# Altium integrated library Lattice ORCA Series 3.IntLib: 93 symbols (part 10 of 14)
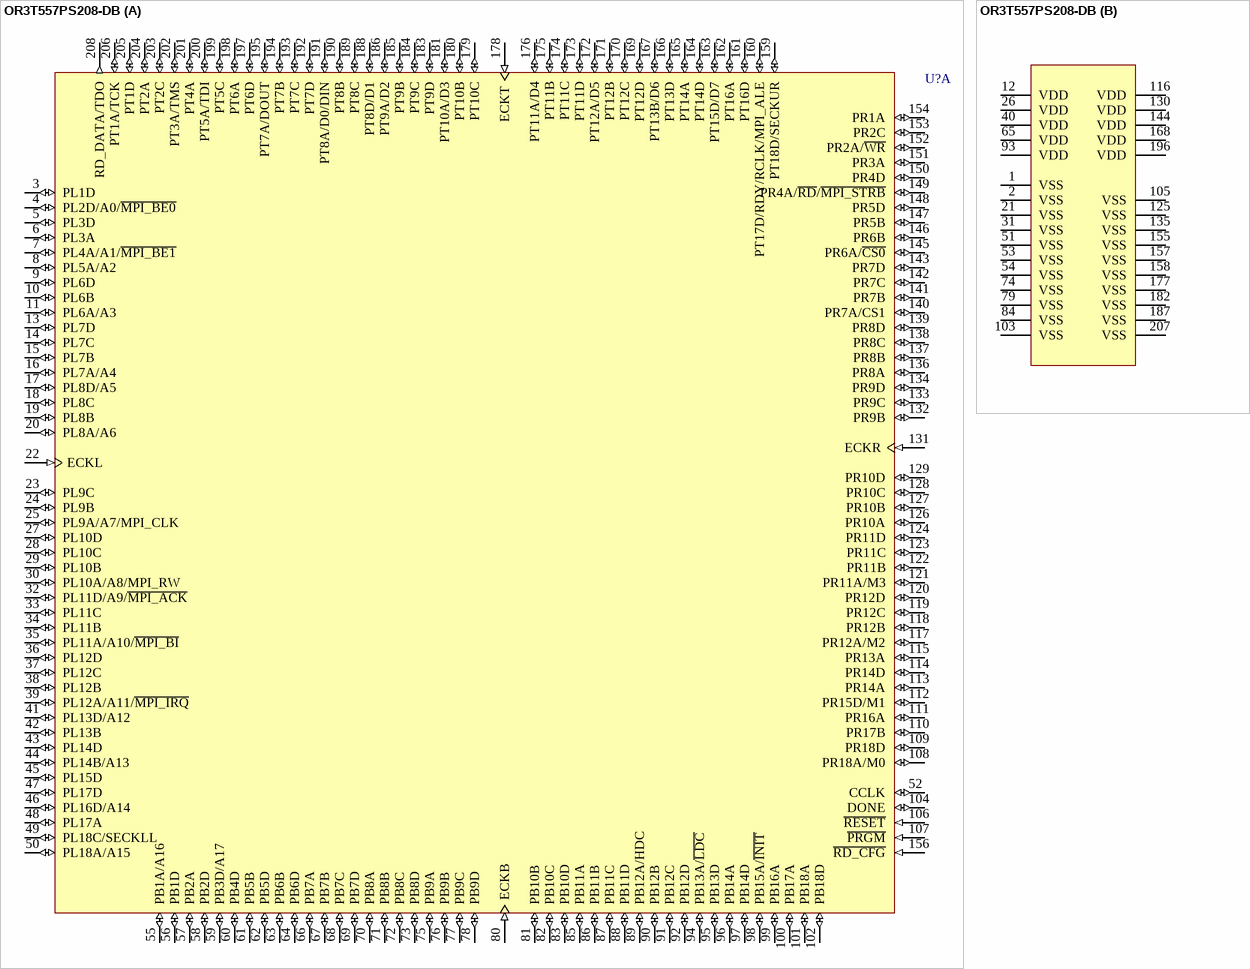
[diagram p145: symbol OR3T557PS208-DB]

## OR3T557PS208-DB
designator U?
ORCA Series 3T FPGA: 3.3 V, Commercial Grade, 292 I/Os.; Published: 21-May-2003; LatestRevisionDate: 13-Apr-2006; LatestRevisionNote: IPC-7351 Footprint Added.; DatasheetVersion: Dec-2002; PackageVersion: pkg_32, Aug-2005; PackageReference: PQFP208; Publisher: Altium Limited; PackageDescription: 208-Pin Plastic Quad Flat Pack (PQFP208); Code_JEDEC: MO-143-FAI; ComponentLink1Description: Manufacturer Link; ComponentLink1URL: http://www.latticesemi.com/products/fpga/orca/orca3/index.cfm; ComponentLink2Description: Datasheet; ComponentLink2URL: http://www.latticesemi.com/account/_download.cfm?AMID=3974; ComponentLink3Description: Lattice Login; ComponentLink3URL: http://www.latticesemi.com/account/login.cfm
footprint PQFP208_N (Shrink QFP, 208-Leads, Body 28x28mm, Pitch 0.5mm, IPC Medium Density)
footprint PQFP208_L (Shrink QFP, 208-Leads, Body 28x28mm, Pitch 0.5mm, IPC High Density)
footprint PQFP208_M (Shrink QFP, 208-Leads, Body 28x28mm, Pitch 0.5mm, IPC Low Density)
3D model OR3T55-PQFP208 (208-Pin Plastic Quad Flat Pack (PQFP208))
part A pins: 3 PL1D (io), 4 PL2D/A0/~{MPI_BE0} (io), 5 PL3D (io), 6 PL3A (io), 7 PL4A/A1/~{MPI_BE1} (io), 8 PL5A/A2 (io), 9 PL6D (io), 10 PL6B (io), 11 PL6A/A3 (io), 13 PL7D (io), 14 PL7C (io), 15 PL7B (io), 16 PL7A/A4 (io), 17 PL8D/A5 (io), 18 PL8C (io), 19 PL8B (io), 20 PL8A/A6 (io), 22 ECKL (in), 23 PL9C (io), 24 PL9B (io), 25 PL9A/A7/MPI_CLK (io), 27 PL10D (io), 28 PL10C (io), 29 PL10B (io), 30 PL10A/A8/MPI_RW (io), 32 PL11D/A9/~{MPI_ACK} (io), 33 PL11C (io), 34 PL11B (io), 35 PL11A/A10/~{MPI_BI} (io), 36 PL12D (io), 37 PL12C (io), 38 PL12B (io), 39 PL12A/A11/~{MPI_IRQ} (io), 41 PL13D/A12 (io), 42 PL13B (io), 43 PL14D (io), 44 PL14B/A13 (io), 45 PL15D (io), 46 PL16D/A14 (io), 47 PL17D (io), 48 PL17A (io), 49 PL18C/SECKLL (io), 50 PL18A/A15 (io), 52 CCLK (io), 55 PB1A/A16 (io), 56 PB1D (io), 57 PB2A (io), 58 PB2D (io), 59 PB3D/A17 (io), 60 PB4D (io), 61 PB5B (io), 62 PB5D (io), 63 PB6B (io), 64 PB6D (io), 66 PB7A (io), 67 PB7B (io), 68 PB7C (io), 69 PB7D (io), 70 PB8A (io), 71 PB8B (io), 72 PB8C (io), 73 PB8D (io), 75 PB9A (io), 76 PB9B (io), 77 PB9C (io), 78 PB9D (io), 80 ECKB (in), 81 PB10B (io), 82 PB10C (io), 83 PB10D (io), 85 PB11A (io), 86 PB11B (io), 87 PB11C (io), 88 PB11D (io), 89 PB12A/HDC (io), 90 PB12B (io), 91 PB12C (io), 92 PB12D (io), 94 PB13A/~{LDC} (io), 95 PB13D (io), 96 PB14A (io), 97 PB14D (io), 98 PB15A/~{INIT} (io), 99 PB16A (io), 100 PB17A (io), 101 PB18A (io), 102 PB18D (io), 104 DONE (io), 106 ~{RESET} (in), 107 ~{PRGM} (in), 108 PR18A/M0 (io), 109 PR18D (io), 110 PR17B (io), 111 PR16A (io), 112 PR15D/M1 (io), 113 PR14A (io), 114 PR14D (io), 115 PR13A (io), 117 PR12A/M2 (io), 118 PR12B (io), 119 PR12C (io), 120 PR12D (io), 121 PR11A/M3 (io), 122 PR11B (io), 123 PR11C (io), 124 PR11D (io), 126 PR10A (io), 127 PR10B (io), 128 PR10C (io), 129 PR10D (io), 131 ECKR (in), 132 PR9B (io), 133 PR9C (io), 134 PR9D (io), 136 PR8A (io), 137 PR8B (io), 138 PR8C (io), 139 PR8D (io), 140 PR7A/CS1 (io), 141 PR7B (io), 142 PR7C (io), 143 PR7D (io), 145 PR6A/~{CS0} (io), 146 PR6B (io), 147 PR5B (io), 148 PR5D (io), 149 PR4A/~{RD}/~{MPI_STRB} (io), 150 PR4D (io), 151 PR3A (io), 152 PR2A/~{WR} (io), 153 PR2C (io), 154 PR1A (io), 156 ~{RD_CFG} (in), 159 PT18D/SECKUR (io), 160 PT17D/RDY/RCLK/MPI_ALE (io), 161 PT16D (io), 162 PT16A (io), 163 PT15D/D7 (io), 164 PT14D (io), 165 PT14A (io), 166 PT13D (io), 167 PT13B/D6 (io), 169 PT12D (io), 170 PT12C (io), 171 PT12B (io), 172 PT12A/D5 (io), 173 PT11D (io), 174 PT11C (io), 175 PT11B (io), 176 PT11A/D4 (io), 178 ECKT (in), 179 PT10C (io), 180 PT10B (io), 181 PT10A/D3 (io), 183 PT9D (io), 184 PT9C (io), 185 PT9B (io), 186 PT9A/D2 (io), 188 PT8D/D1 (io), 189 PT8C (io), 190 PT8B (io), 191 PT8A/D0/DIN (io), 192 PT7D (io), 193 PT7C (io), 194 PT7B (io), 195 PT7A/DOUT (io), 197 PT6D (io), 198 PT6A (io), 199 PT5C (io), 200 PT5A/TDI (io), 201 PT4A (io), 202 PT3A/TMS (io), 203 PT2C (io), 204 PT2A (io), 205 PT1D (io), 206 PT1A/TCK (io), 208 RD_DATA/TDO (out)
part B pins: 1 VSS (power), 2 VSS (power), 12 VDD (power), 21 VSS (power), 26 VDD (power), 31 VSS (power), 40 VDD (power), 51 VSS (power), 53 VSS (power), 54 VSS (power), 65 VDD (power), 74 VSS (power), 79 VSS (power), 84 VSS (power), 93 VDD (power), 103 VSS (power), 105 VSS (power), 116 VDD (power), 125 VSS (power), 130 VDD (power), 135 VSS (power), 144 VDD (power), 155 VSS (power), 157 VSS (power), 158 VSS (power), 168 VDD (power), 177 VSS (power), 182 VSS (power), 187 VSS (power), 196 VDD (power), 207 VSS (power)

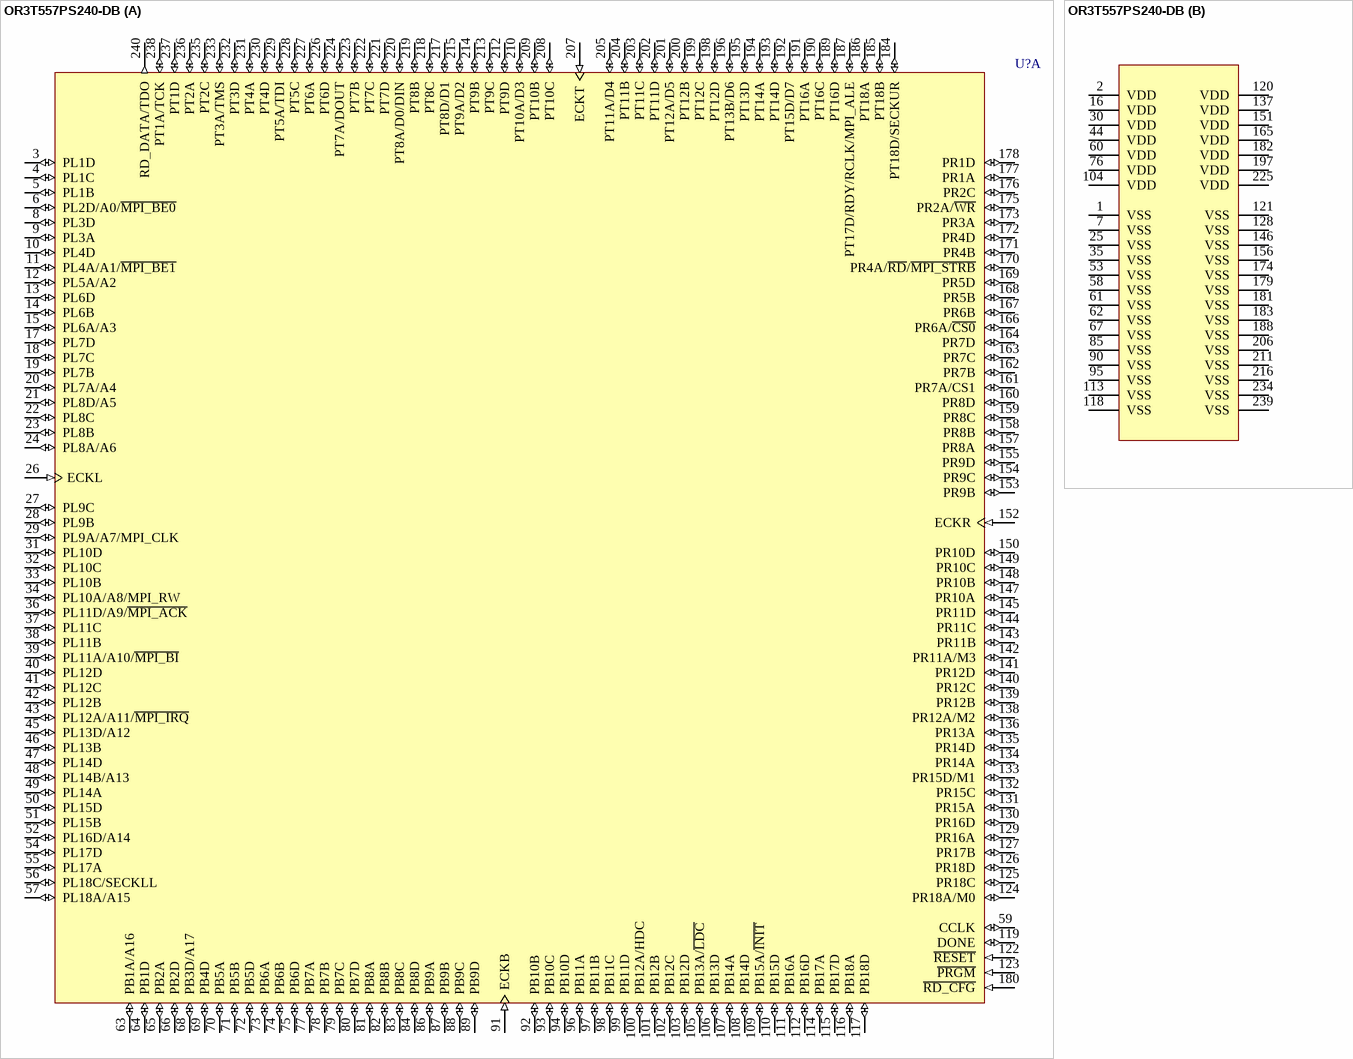
[diagram p95: symbol OR3T557PS240-DB]

## OR3T557PS240-DB
designator U?
ORCA Series 3T FPGA: 3.3 V, Commercial Grade, 292 I/Os.; Published: 21-May-2003; LatestRevisionDate: 13-Apr-2006; LatestRevisionNote: IPC-7351 Footprint Added.; DatasheetVersion: Dec-2002; PackageVersion: pkg_32, Aug-2005; PackageReference: PQFP240; Publisher: Altium Limited; PackageDescription: 240-Pin Shrink Quad Flat Pack 0.5 mm Pitch; ComponentLink1Description: Manufacturer Link; ComponentLink1URL: http://www.latticesemi.com/products/fpga/orca/orca3/index.cfm; ComponentLink2Description: Datasheet; ComponentLink2URL: http://www.latticesemi.com/account/_download.cfm?AMID=3974; ComponentLink3Description: Lattice Login; ComponentLink3URL: http://www.latticesemi.com/account/login.cfm
footprint PQFP240_N (Shrink QFP, 240-Leads, Body 32x32mm, Pitch 0.5mm, IPC Medium Density)
footprint PQFP240_L (Shrink QFP, 240-Leads, Body 32x32mm, Pitch 0.5mm, IPC High Density)
footprint PQFP240_M (Shrink QFP, 240-Leads, Body 32x32mm, Pitch 0.5mm, IPC Low Density)
3D model OR3T55-PQFP240 (240-Pin Shrink Quad Flat Pack 0.5 mm Pitch)
part A pins: 3 PL1D (io), 4 PL1C (io), 5 PL1B (io), 6 PL2D/A0/~{MPI_BE0} (io), 8 PL3D (io), 9 PL3A (io), 10 PL4D (io), 11 PL4A/A1/~{MPI_BE1} (io), 12 PL5A/A2 (io), 13 PL6D (io), 14 PL6B (io), 15 PL6A/A3 (io), 17 PL7D (io), 18 PL7C (io), 19 PL7B (io), 20 PL7A/A4 (io), 21 PL8D/A5 (io), 22 PL8C (io), 23 PL8B (io), 24 PL8A/A6 (io), 26 ECKL (in), 27 PL9C (io), 28 PL9B (io), 29 PL9A/A7/MPI_CLK (io), 31 PL10D (io), 32 PL10C (io), 33 PL10B (io), 34 PL10A/A8/MPI_RW (io), 36 PL11D/A9/~{MPI_ACK} (io), 37 PL11C (io), 38 PL11B (io), 39 PL11A/A10/~{MPI_BI} (io), 40 PL12D (io), 41 PL12C (io), 42 PL12B (io), 43 PL12A/A11/~{MPI_IRQ} (io), 45 PL13D/A12 (io), 46 PL13B (io), 47 PL14D (io), 48 PL14B/A13 (io), 49 PL14A (io), 50 PL15D (io), 51 PL15B (io), 52 PL16D/A14 (io), 54 PL17D (io), 55 PL17A (io), 56 PL18C/SECKLL (io), 57 PL18A/A15 (io), 59 CCLK (io), 63 PB1A/A16 (io), 64 PB1D (io), 65 PB2A (io), 66 PB2D (io), 68 PB3D/A17 (io), 69 PB4D (io), 70 PB5A (io), 71 PB5B (io), 72 PB5D (io), 73 PB6A (io), 74 PB6B (io), 75 PB6D (io), 77 PB7A (io), 78 PB7B (io), 79 PB7C (io), 80 PB7D (io), 81 PB8A (io), 82 PB8B (io), 83 PB8C (io), 84 PB8D (io), 86 PB9A (io), 87 PB9B (io), 88 PB9C (io), 89 PB9D (io), 91 ECKB (in), 92 PB10B (io), 93 PB10C (io), 94 PB10D (io), 96 PB11A (io), 97 PB11B (io), 98 PB11C (io), 99 PB11D (io), 100 PB12A/HDC (io), 101 PB12B (io), 102 PB12C (io), 103 PB12D (io), 105 PB13A/~{LDC} (io), 106 PB13D (io), 107 PB14A (io), 108 PB14D (io), 109 PB15A/~{INIT} (io), 110 PB15D (io), 111 PB16A (io), 112 PB16D (io), 114 PB17A (io), 115 PB17D (io), 116 PB18A (io), 117 PB18D (io), 119 DONE (io), 122 ~{RESET} (in), 123 ~{PRGM} (in), 124 PR18A/M0 (io), 125 PR18C (io), 126 PR18D (io), 127 PR17B (io), 129 PR16A (io), 130 PR16D (io), 131 PR15A (io), 132 PR15C (io), 133 PR15D/M1 (io), 134 PR14A (io), 135 PR14D (io), 136 PR13A (io), 138 PR12A/M2 (io), 139 PR12B (io), 140 PR12C (io), 141 PR12D (io), 142 PR11A/M3 (io), 143 PR11B (io), 144 PR11C (io), 145 PR11D (io), 147 PR10A (io), 148 PR10B (io), 149 PR10C (io), 150 PR10D (io), 152 ECKR (in), 153 PR9B (io), 154 PR9C (io), 155 PR9D (io), 157 PR8A (io), 158 PR8B (io), 159 PR8C (io), 160 PR8D (io), 161 PR7A/CS1 (io), 162 PR7B (io), 163 PR7C (io), 164 PR7D (io), 166 PR6A/~{CS0} (io), 167 PR6B (io), 168 PR5B (io), 169 PR5D (io), 170 PR4A/~{RD}/~{MPI_STRB} (io), 171 PR4B (io), 172 PR4D (io), 173 PR3A (io), 175 PR2A/~{WR} (io), 176 PR2C (io), 177 PR1A (io), 178 PR1D (io), 180 ~{RD_CFG} (in), 184 PT18D/SECKUR (io), 185 PT18B (io), 186 PT18A (io), 187 PT17D/RDY/RCLK/MPI_ALE (io), 189 PT16D (io), 190 PT16C (io), 191 PT16A (io), 192 PT15D/D7 (io), 193 PT14D (io), 194 PT14A (io), 195 PT13D (io), 196 PT13B/D6 (io), 198 PT12D (io), 199 PT12C (io), 200 PT12B (io), 201 PT12A/D5 (io), 202 PT11D (io), 203 PT11C (io), 204 PT11B (io), 205 PT11A/D4 (io), 207 ECKT (in), 208 PT10C (io), 209 PT10B (io), 210 PT10A/D3 (io), 212 PT9D (io), 213 PT9C (io), 214 PT9B (io), 215 PT9A/D2 (io), 217 PT8D/D1 (io), 218 PT8C (io), 219 PT8B (io), 220 PT8A/D0/DIN (io), 221 PT7D (io), 222 PT7C (io), 223 PT7B (io), 224 PT7A/DOUT (io), 226 PT6D (io), 227 PT6A (io), 228 PT5C (io), 229 PT5A/TDI (io), 230 PT4D (io), 231 PT4A (io), 232 PT3D (io), 233 PT3A/TMS (io), 235 PT2C (io), 236 PT2A (io), 237 PT1D (io), 238 PT1A/TCK (io), 240 RD_DATA/TDO (out)
part B pins: 1 VSS (power), 2 VDD (power), 7 VSS (power), 16 VDD (power), 25 VSS (power), 30 VDD (power), 35 VSS (power), 44 VDD (power), 53 VSS (power), 58 VSS (power), 60 VDD (power), 61 VSS (power), 62 VSS (power), 67 VSS (power), 76 VDD (power), 85 VSS (power), 90 VSS (power), 95 VSS (power), 104 VDD (power), 113 VSS (power), 118 VSS (power), 120 VDD (power), 121 VSS (power), 128 VSS (power), 137 VDD (power), 146 VSS (power), 151 VDD (power), 156 VSS (power), 165 VDD (power), 174 VSS (power), 179 VSS (power), 181 VSS (power), 182 VDD (power), 183 VSS (power), 188 VSS (power), 197 VDD (power), 206 VSS (power), 211 VSS (power), 216 VSS (power), 225 VDD (power), 234 VSS (power), 239 VSS (power)

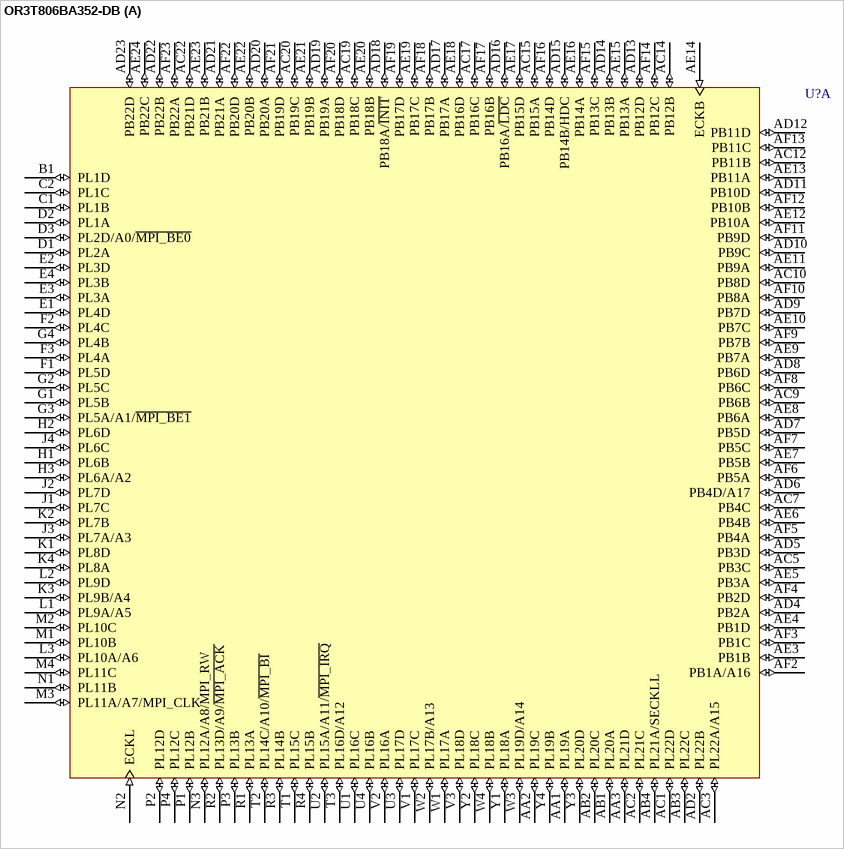
[diagram p96: symbol OR3T806BA352-DB]

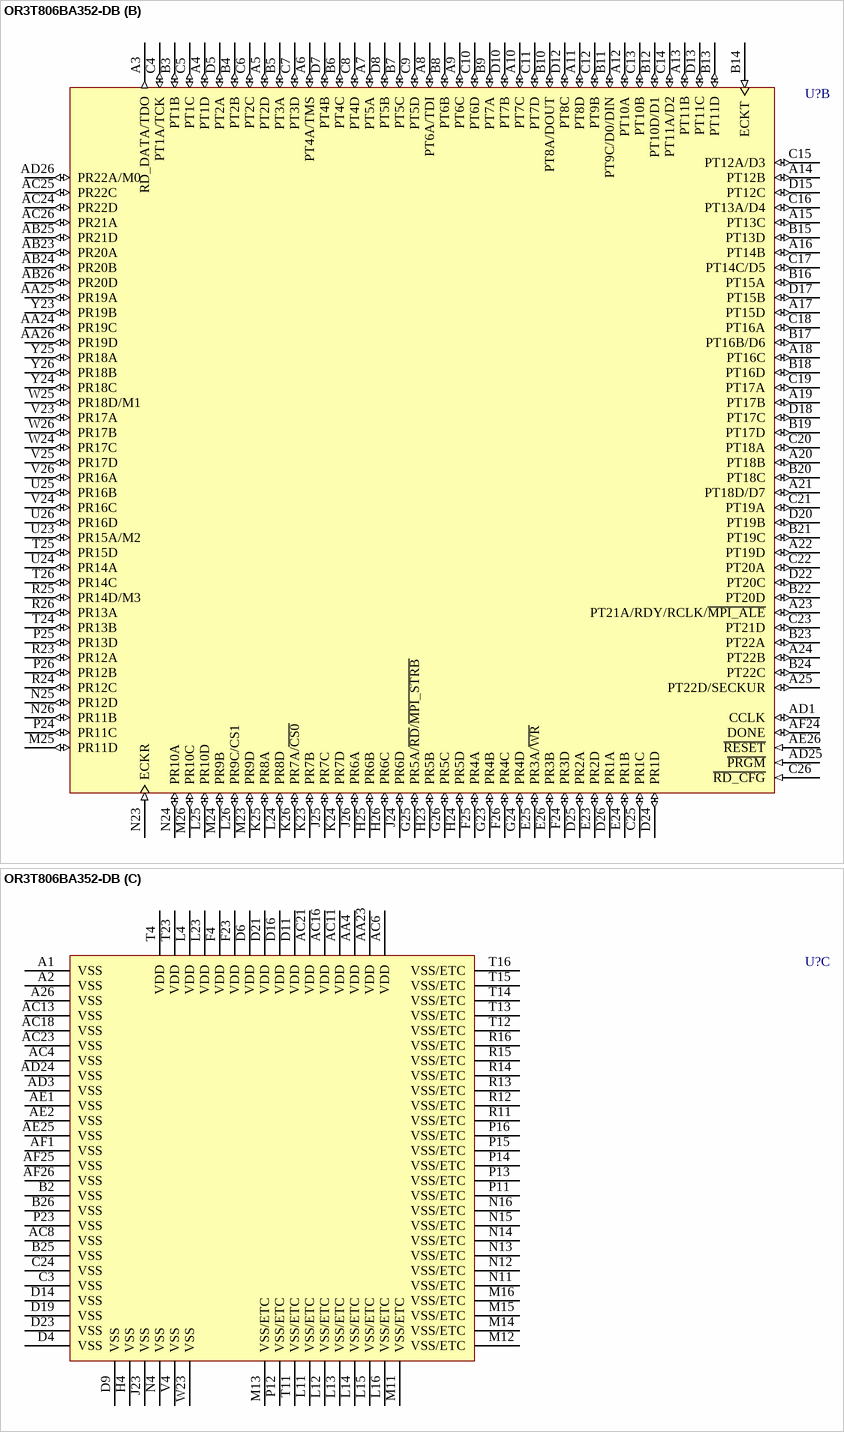
[diagram p97: symbol OR3T806BA352-DB]

## OR3T806BA352-DB
designator U?
ORCA Series 3T FPGA: 3.3 V, Commercial Grade, 356 I/Os.; PinConnectionRecommendation: Ground array of 'VSS-ETC' pins for enhanced thermal capability or leave unconnected.; Published: 21-May-2003; LatestRevisionDate: 13-Apr-2006; LatestRevisionNote: IPC-7351 Footprint Added.; DatasheetVersion: Dec-2002; PackageVersion: pkg_32, Aug-2005; PackageReference: BGA388; Publisher: Altium Limited; PackageDescription: 388-Ball Ball Grid Array (BGA388); ComponentLink1Description: Manufacturer Link; ComponentLink1URL: http://www.latticesemi.com/products/fpga/orca/orca3/index.cfm; ComponentLink2Description: Datasheet; ComponentLink2URL: http://www.latticesemi.com/account/_download.cfm?AMID=3974; ComponentLink3Description: Lattice Login; ComponentLink3URL: http://www.latticesemi.com/account/login.cfm
footprint BGA388 (BGA, 388-Leads, Body 35x35mm, Pitch 1.27mm)
3D model OR3T80-BGA388 (388-Ball Ball Grid Array (BGA388))
part A pins: AA1 PL19A (io), AA2 PL19C (io), AA3 PL21D (io), AB1 PL20A (io), AB2 PL20C (io), AB3 PL22C (io), AB4 PL21A/SECKLL (io), AC1 PL22D (io), AC2 PL21C (io), AC3 PL22A/A15 (io), AC5 PB3C (io), AC7 PB4C (io), AC9 PB6B (io), AC10 PB8D (io), AC12 PB11B (io), AC14 PB12B (io), AC15 PB15A (io), AC17 PB16C (io), AC19 PB18C (io), AC20 PB19C (io), AC22 PB21D (io), AD2 PL22B (io), AD4 PB2A (io), AD5 PB3D (io), AD6 PB4D/A17 (io), AD7 PB5D (io), AD8 PB6D (io), AD9 PB7D (io), AD10 PB9C (io), AD11 PB10D (io), AD12 PB11D (io), AD13 PB12D (io), AD14 PB13B (io), AD15 PB14B/HDC (io), AD16 PB16A/~{LDC} (io), AD17 PB17A (io), AD18 PB18A/~{INIT} (io), AD19 PB19A (io), AD20 PB20A (io), AD21 PB21A (io), AD22 PB22B (io), AD23 PB22D (io), AE3 PB1B (io), AE4 PB1D (io), AE5 PB3A (io), AE6 PB4B (io), AE7 PB5B (io), AE8 PB6A (io), AE9 PB7A (io), AE10 PB7C (io), AE11 PB9A (io), AE12 PB10A (io), AE13 PB11A (io), AE14 ECKB (in), AE15 PB13A (io), AE16 PB14A (io), AE17 PB15D (io), AE18 PB16D (io), AE19 PB17C (io), AE20 PB18B (io), AE21 PB19B (io), AE22 PB20B (io), AE23 PB21B (io), AE24 PB22C (io), AF2 PB1A/A16 (io), AF3 PB1C (io), AF4 PB2D (io), AF5 PB4A (io), AF6 PB5A (io), AF7 PB5C (io), AF8 PB6C (io), AF9 PB7B (io), AF10 PB8A (io), AF11 PB9D (io), AF12 PB10B (io), AF13 PB11C (io), AF14 PB12C (io), AF15 PB13C (io), AF16 PB14D (io), AF17 PB16B (io), AF18 PB17B (io), AF19 PB17D (io), AF20 PB18D (io), AF21 PB19D (io), AF22 PB20D (io), AF23 PB22A (io), B1 PL1D (io), C1 PL1B (io), C2 PL1C (io), D1 PL2A (io), D2 PL1A (io), D3 PL2D/A0/~{MPI_BE0} (io), E1 PL4D (io), E2 PL3D (io), E3 PL3A (io), E4 PL3B (io), F1 PL5D (io), F2 PL4C (io), F3 PL4A (io), G1 PL5B (io), G2 PL5C (io), G3 PL5A/A1/~{MPI_BE1} (io), G4 PL4B (io), H1 PL6B (io), H2 PL6D (io), H3 PL6A/A2 (io), J1 PL7C (io), J2 PL7D (io), J3 PL7A/A3 (io), J4 PL6C (io), K1 PL8D (io), K2 PL7B (io), K3 PL9B/A4 (io), K4 PL8A (io), L1 PL9A/A5 (io), L2 PL9D (io), L3 PL10A/A6 (io), M1 PL10B (io), M2 PL10C (io), M3 PL11A/A7/MPI_CLK (io), M4 PL11C (io), N1 PL11B (io), N2 ECKL (in), N3 PL12A/A8/MPI_RW (io), P1 PL12B (io), P2 PL12D (io), P3 PL13B (io), P4 PL12C (io), R1 PL13A (io), R2 PL13D/A9/~{MPI_ACK} (io), R3 PL14B (io), R4 PL15B (io), T1 PL15C (io), T2 PL14C/A10/~{MPI_BI} (io), T3 PL16D/A12 (io), U1 PL16C (io), U2 PL15A/A11/~{MPI_IRQ} (io), U3 PL17D (io), U4 PL16B (io), V1 PL17C (io), V2 PL16A (io), V3 PL18D (io), W1 PL17A (io), W2 PL17B/A13 (io), W3 PL19D/A14 (io), W4 PL18B (io), Y1 PL18A (io), Y2 PL18C (io), Y3 PL20D (io), Y4 PL19B (io)
part B pins: A3 RD_DATA/TDO (out), A4 PT1D (io), A5 PT2D (io), A6 PT4A/TMS (io), A7 PT5A (io), A8 PT6A/TDI (io), A9 PT6C (io), A10 PT7C (io), A11 PT8D (io), A12 PT10A (io), A13 PT11B (io), A14 PT12B (io), A15 PT13C (io), A16 PT14B (io), A17 PT15D (io), A18 PT16C (io), A19 PT17B (io), A20 PT18B (io), A21 PT18D/D7 (io), A22 PT19D (io), A23 PT21A/RDY/RCLK/~{MPI_ALE} (io), A24 PT22B (io), A25 PT22D/SECKUR (io), AA24 PR19C (io), AA25 PR19A (io), AA26 PR19D (io), AB23 PR20A (io), AB24 PR20B (io), AB25 PR21D (io), AB26 PR20D (io), AC24 PR22D (io), AC25 PR22C (io), AC26 PR21A (io), AD1 CCLK (io), AD25 ~{PRGM} (in), AD26 PR22A/M0 (io), AE26 ~{RESET} (in), AF24 DONE (io), B3 PT1B (io), B4 PT2B (io), B5 PT3A (io), B6 PT4C (io), B7 PT5C (io), B8 PT6B (io), B9 PT7A (io), B10 PT8A/DOUT (io), B11 PT9C/D0/DIN (io), B12 PT10D/D1 (io), B13 PT11D (io), B14 ECKT (in), B15 PT13D (io), B16 PT15A (io), B17 PT16B/D6 (io), B18 PT16D (io), B19 PT17D (io), B20 PT18C (io), B21 PT19C (io), B22 PT20D (io), B23 PT22A (io), B24 PT22C (io), C4 PT1A/TCK (io), C5 PT1C (io), C6 PT2C (io), C7 PT3D (io), C8 PT4D (io), C9 PT5D (io), C10 PT6D (io), C11 PT7D (io), C12 PT9B (io), C13 PT10B (io), C14 PT11A/D2 (io), C15 PT12A/D3 (io), C16 PT13A/D4 (io), C17 PT14C/D5 (io), C18 PT16A (io), C19 PT17A (io), C20 PT18A (io), C21 PT19A (io), C22 PT20A (io), C23 PT21D (io), C25 PR1C (io), C26 ~{RD_CFG} (in), D5 PT2A (io), D7 PT4B (io), D8 PT5B (io), D10 PT7B (io), D12 PT8C (io), D13 PT11C (io), D15 PT12C (io), D17 PT15B (io), D18 PT17C (io), D20 PT19B (io), D22 PT20C (io), D24 PR1D (io), D25 PR2A (io), D26 PR1A (io), E23 PR2D (io), E24 PR1B (io), E25 PR3A/~{WR} (io), E26 PR3B (io), F24 PR3D (io), F25 PR4A (io), F26 PR4C (io), G23 PR4B (io), G24 PR4D (io), G25 PR5A/~{RD}/~{MPI_STRB} (io), G26 PR5C (io), H23 PR5B (io), H24 PR5D (io), H25 PR6B (io), H26 PR6C (io), J24 PR6D (io), J25 PR7C (io), J26 PR6A (io), K23 PR7B (io), K24 PR7D (io), K25 PR8A (io), K26 PR7A/~{CS0} (io), L24 PR8D (io), L25 PR10D (io), L26 PR9C/CS1 (io), M23 PR9D (io), M24 PR9B (io), M25 PR11D (io), M26 PR10C (io), N23 ECKR (in), N24 PR10A (io), N25 PR12D (io), N26 PR11B (io), P24 PR11C (io), P25 PR13D (io), P26 PR12B (io), R23 PR12A (io), R24 PR12C (io), R25 PR14D/M3 (io), R26 PR13A (io), T24 PR13B (io), T25 PR15D (io), T26 PR14C (io), U23 PR15A/M2 (io), U24 PR14A (io), U25 PR16B (io), U26 PR16D (io), V23 PR17A (io), V24 PR16C (io), V25 PR17D (io), V26 PR16A (io), W24 PR17C (io), W25 PR18D/M1 (io), W26 PR17B (io), Y23 PR19B (io), Y24 PR18C (io), Y25 PR18A (io), Y26 PR18B (io)
part C pins: A1 VSS (power), A2 VSS (power), A26 VSS (power), AA4 VDD (power), AA23 VDD (power), AC4 VSS (power), AC6 VDD (power), AC8 VSS (power), AC11 VDD (power), AC13 VSS (power), AC16 VDD (power), AC18 VSS (power), AC21 VDD (power), AC23 VSS (power), AD3 VSS (power), AD24 VSS (power), AE1 VSS (power), AE2 VSS (power), AE25 VSS (power), AF1 VSS (power), AF25 VSS (power), AF26 VSS (power), B2 VSS (power), B25 VSS (power), B26 VSS (power), C3 VSS (power), C24 VSS (power), D4 VSS (power), D6 VDD (power), D9 VSS (power), D11 VDD (power), D14 VSS (power), D16 VDD (power), D19 VSS (power), D21 VDD (power), D23 VSS (power), F4 VDD (power), F23 VDD (power), H4 VSS (power), J23 VSS (power), L4 VDD (power), L11 VSS/ETC (power), L12 VSS/ETC (power), L13 VSS/ETC (power), L14 VSS/ETC (power), L15 VSS/ETC (power), L16 VSS/ETC (power), L23 VDD (power), M11 VSS/ETC (power), M12 VSS/ETC (power), M13 VSS/ETC (power), M14 VSS/ETC (power), M15 VSS/ETC (power), M16 VSS/ETC (power), N4 VSS (power), N11 VSS/ETC (power), N12 VSS/ETC (power), N13 VSS/ETC (power), N14 VSS/ETC (power), N15 VSS/ETC (power), N16 VSS/ETC (power), P11 VSS/ETC (power), P12 VSS/ETC (power), P13 VSS/ETC (power), P14 VSS/ETC (power), P15 VSS/ETC (power), P16 VSS/ETC (power), P23 VSS (power), R11 VSS/ETC (power), R12 VSS/ETC (power), R13 VSS/ETC (power), R14 VSS/ETC (power), R15 VSS/ETC (power), R16 VSS/ETC (power), T4 VDD (power), T11 VSS/ETC (power), T12 VSS/ETC (power), T13 VSS/ETC (power), T14 VSS/ETC (power), T15 VSS/ETC (power), T16 VSS/ETC (power), T23 VDD (power), V4 VSS (power), W23 VSS (power)

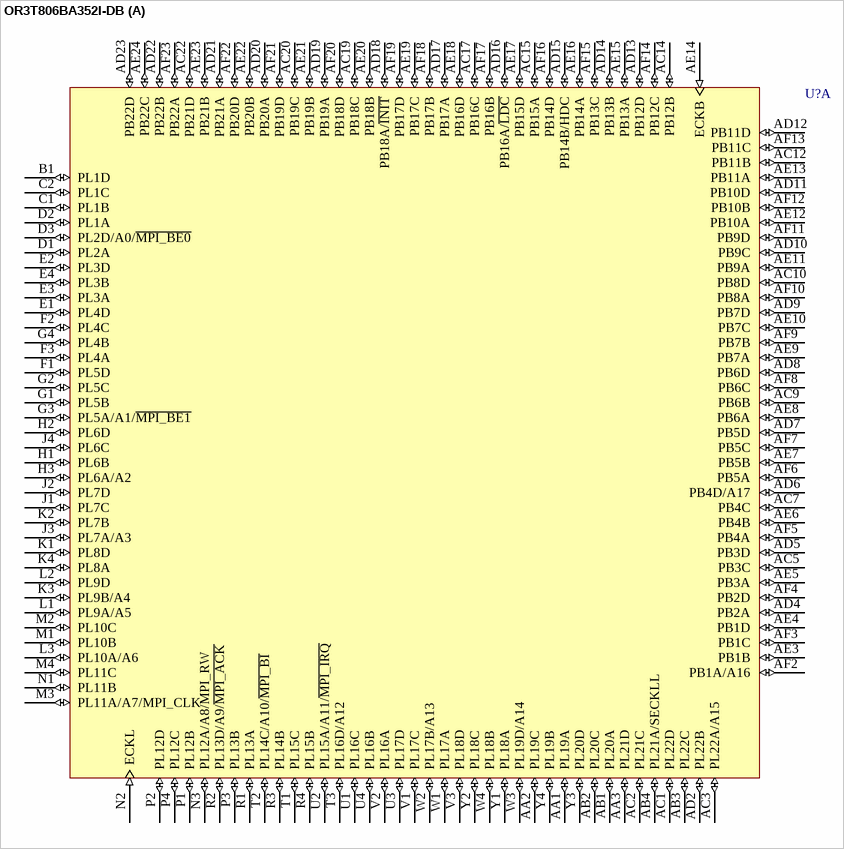
[diagram p98: symbol OR3T806BA352I-DB]

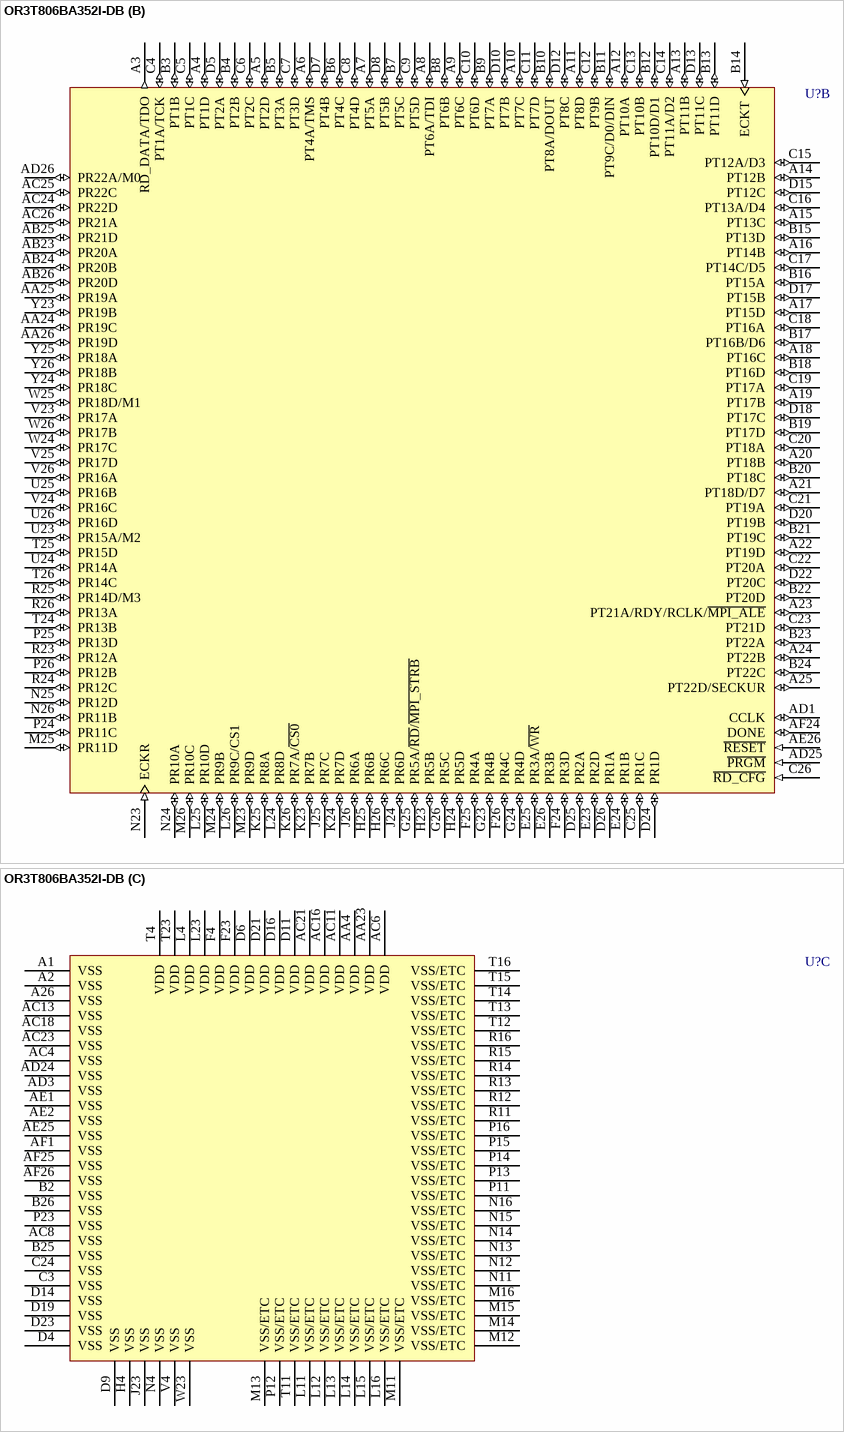
[diagram p99: symbol OR3T806BA352I-DB]

## OR3T806BA352I-DB
designator U?
ORCA Series 3T FPGA: 3.3 V, Industrial Grade, 356 I/Os.; PinConnectionRecommendation: Ground array of 'VSS-ETC' pins for enhanced thermal capability or leave unconnected.; Published: 21-May-2003; LatestRevisionDate: 13-Apr-2006; LatestRevisionNote: IPC-7351 Footprint Added.; DatasheetVersion: Dec-2002; PackageVersion: pkg_32, Aug-2005; PackageReference: BGA388; Publisher: Altium Limited; PackageDescription: 388-Ball Ball Grid Array (BGA388); ComponentLink1Description: Manufacturer Link; ComponentLink1URL: http://www.latticesemi.com/products/fpga/orca/orca3/index.cfm; ComponentLink2Description: Datasheet; ComponentLink2URL: http://www.latticesemi.com/account/_download.cfm?AMID=3974; ComponentLink3Description: Lattice Login; ComponentLink3URL: http://www.latticesemi.com/account/login.cfm
footprint BGA388 (BGA, 388-Leads, Body 35x35mm, Pitch 1.27mm)
3D model OR3T80-BGA388 (388-Ball Ball Grid Array (BGA388))
part A pins: AA1 PL19A (io), AA2 PL19C (io), AA3 PL21D (io), AB1 PL20A (io), AB2 PL20C (io), AB3 PL22C (io), AB4 PL21A/SECKLL (io), AC1 PL22D (io), AC2 PL21C (io), AC3 PL22A/A15 (io), AC5 PB3C (io), AC7 PB4C (io), AC9 PB6B (io), AC10 PB8D (io), AC12 PB11B (io), AC14 PB12B (io), AC15 PB15A (io), AC17 PB16C (io), AC19 PB18C (io), AC20 PB19C (io), AC22 PB21D (io), AD2 PL22B (io), AD4 PB2A (io), AD5 PB3D (io), AD6 PB4D/A17 (io), AD7 PB5D (io), AD8 PB6D (io), AD9 PB7D (io), AD10 PB9C (io), AD11 PB10D (io), AD12 PB11D (io), AD13 PB12D (io), AD14 PB13B (io), AD15 PB14B/HDC (io), AD16 PB16A/~{LDC} (io), AD17 PB17A (io), AD18 PB18A/~{INIT} (io), AD19 PB19A (io), AD20 PB20A (io), AD21 PB21A (io), AD22 PB22B (io), AD23 PB22D (io), AE3 PB1B (io), AE4 PB1D (io), AE5 PB3A (io), AE6 PB4B (io), AE7 PB5B (io), AE8 PB6A (io), AE9 PB7A (io), AE10 PB7C (io), AE11 PB9A (io), AE12 PB10A (io), AE13 PB11A (io), AE14 ECKB (in), AE15 PB13A (io), AE16 PB14A (io), AE17 PB15D (io), AE18 PB16D (io), AE19 PB17C (io), AE20 PB18B (io), AE21 PB19B (io), AE22 PB20B (io), AE23 PB21B (io), AE24 PB22C (io), AF2 PB1A/A16 (io), AF3 PB1C (io), AF4 PB2D (io), AF5 PB4A (io), AF6 PB5A (io), AF7 PB5C (io), AF8 PB6C (io), AF9 PB7B (io), AF10 PB8A (io), AF11 PB9D (io), AF12 PB10B (io), AF13 PB11C (io), AF14 PB12C (io), AF15 PB13C (io), AF16 PB14D (io), AF17 PB16B (io), AF18 PB17B (io), AF19 PB17D (io), AF20 PB18D (io), AF21 PB19D (io), AF22 PB20D (io), AF23 PB22A (io), B1 PL1D (io), C1 PL1B (io), C2 PL1C (io), D1 PL2A (io), D2 PL1A (io), D3 PL2D/A0/~{MPI_BE0} (io), E1 PL4D (io), E2 PL3D (io), E3 PL3A (io), E4 PL3B (io), F1 PL5D (io), F2 PL4C (io), F3 PL4A (io), G1 PL5B (io), G2 PL5C (io), G3 PL5A/A1/~{MPI_BE1} (io), G4 PL4B (io), H1 PL6B (io), H2 PL6D (io), H3 PL6A/A2 (io), J1 PL7C (io), J2 PL7D (io), J3 PL7A/A3 (io), J4 PL6C (io), K1 PL8D (io), K2 PL7B (io), K3 PL9B/A4 (io), K4 PL8A (io), L1 PL9A/A5 (io), L2 PL9D (io), L3 PL10A/A6 (io), M1 PL10B (io), M2 PL10C (io), M3 PL11A/A7/MPI_CLK (io), M4 PL11C (io), N1 PL11B (io), N2 ECKL (in), N3 PL12A/A8/MPI_RW (io), P1 PL12B (io), P2 PL12D (io), P3 PL13B (io), P4 PL12C (io), R1 PL13A (io), R2 PL13D/A9/~{MPI_ACK} (io), R3 PL14B (io), R4 PL15B (io), T1 PL15C (io), T2 PL14C/A10/~{MPI_BI} (io), T3 PL16D/A12 (io), U1 PL16C (io), U2 PL15A/A11/~{MPI_IRQ} (io), U3 PL17D (io), U4 PL16B (io), V1 PL17C (io), V2 PL16A (io), V3 PL18D (io), W1 PL17A (io), W2 PL17B/A13 (io), W3 PL19D/A14 (io), W4 PL18B (io), Y1 PL18A (io), Y2 PL18C (io), Y3 PL20D (io), Y4 PL19B (io)
part B pins: A3 RD_DATA/TDO (out), A4 PT1D (io), A5 PT2D (io), A6 PT4A/TMS (io), A7 PT5A (io), A8 PT6A/TDI (io), A9 PT6C (io), A10 PT7C (io), A11 PT8D (io), A12 PT10A (io), A13 PT11B (io), A14 PT12B (io), A15 PT13C (io), A16 PT14B (io), A17 PT15D (io), A18 PT16C (io), A19 PT17B (io), A20 PT18B (io), A21 PT18D/D7 (io), A22 PT19D (io), A23 PT21A/RDY/RCLK/~{MPI_ALE} (io), A24 PT22B (io), A25 PT22D/SECKUR (io), AA24 PR19C (io), AA25 PR19A (io), AA26 PR19D (io), AB23 PR20A (io), AB24 PR20B (io), AB25 PR21D (io), AB26 PR20D (io), AC24 PR22D (io), AC25 PR22C (io), AC26 PR21A (io), AD1 CCLK (io), AD25 ~{PRGM} (in), AD26 PR22A/M0 (io), AE26 ~{RESET} (in), AF24 DONE (io), B3 PT1B (io), B4 PT2B (io), B5 PT3A (io), B6 PT4C (io), B7 PT5C (io), B8 PT6B (io), B9 PT7A (io), B10 PT8A/DOUT (io), B11 PT9C/D0/DIN (io), B12 PT10D/D1 (io), B13 PT11D (io), B14 ECKT (in), B15 PT13D (io), B16 PT15A (io), B17 PT16B/D6 (io), B18 PT16D (io), B19 PT17D (io), B20 PT18C (io), B21 PT19C (io), B22 PT20D (io), B23 PT22A (io), B24 PT22C (io), C4 PT1A/TCK (io), C5 PT1C (io), C6 PT2C (io), C7 PT3D (io), C8 PT4D (io), C9 PT5D (io), C10 PT6D (io), C11 PT7D (io), C12 PT9B (io), C13 PT10B (io), C14 PT11A/D2 (io), C15 PT12A/D3 (io), C16 PT13A/D4 (io), C17 PT14C/D5 (io), C18 PT16A (io), C19 PT17A (io), C20 PT18A (io), C21 PT19A (io), C22 PT20A (io), C23 PT21D (io), C25 PR1C (io), C26 ~{RD_CFG} (in), D5 PT2A (io), D7 PT4B (io), D8 PT5B (io), D10 PT7B (io), D12 PT8C (io), D13 PT11C (io), D15 PT12C (io), D17 PT15B (io), D18 PT17C (io), D20 PT19B (io), D22 PT20C (io), D24 PR1D (io), D25 PR2A (io), D26 PR1A (io), E23 PR2D (io), E24 PR1B (io), E25 PR3A/~{WR} (io), E26 PR3B (io), F24 PR3D (io), F25 PR4A (io), F26 PR4C (io), G23 PR4B (io), G24 PR4D (io), G25 PR5A/~{RD}/~{MPI_STRB} (io), G26 PR5C (io), H23 PR5B (io), H24 PR5D (io), H25 PR6B (io), H26 PR6C (io), J24 PR6D (io), J25 PR7C (io), J26 PR6A (io), K23 PR7B (io), K24 PR7D (io), K25 PR8A (io), K26 PR7A/~{CS0} (io), L24 PR8D (io), L25 PR10D (io), L26 PR9C/CS1 (io), M23 PR9D (io), M24 PR9B (io), M25 PR11D (io), M26 PR10C (io), N23 ECKR (in), N24 PR10A (io), N25 PR12D (io), N26 PR11B (io), P24 PR11C (io), P25 PR13D (io), P26 PR12B (io), R23 PR12A (io), R24 PR12C (io), R25 PR14D/M3 (io), R26 PR13A (io), T24 PR13B (io), T25 PR15D (io), T26 PR14C (io), U23 PR15A/M2 (io), U24 PR14A (io), U25 PR16B (io), U26 PR16D (io), V23 PR17A (io), V24 PR16C (io), V25 PR17D (io), V26 PR16A (io), W24 PR17C (io), W25 PR18D/M1 (io), W26 PR17B (io), Y23 PR19B (io), Y24 PR18C (io), Y25 PR18A (io), Y26 PR18B (io)
part C pins: A1 VSS (power), A2 VSS (power), A26 VSS (power), AA4 VDD (power), AA23 VDD (power), AC4 VSS (power), AC6 VDD (power), AC8 VSS (power), AC11 VDD (power), AC13 VSS (power), AC16 VDD (power), AC18 VSS (power), AC21 VDD (power), AC23 VSS (power), AD3 VSS (power), AD24 VSS (power), AE1 VSS (power), AE2 VSS (power), AE25 VSS (power), AF1 VSS (power), AF25 VSS (power), AF26 VSS (power), B2 VSS (power), B25 VSS (power), B26 VSS (power), C3 VSS (power), C24 VSS (power), D4 VSS (power), D6 VDD (power), D9 VSS (power), D11 VDD (power), D14 VSS (power), D16 VDD (power), D19 VSS (power), D21 VDD (power), D23 VSS (power), F4 VDD (power), F23 VDD (power), H4 VSS (power), J23 VSS (power), L4 VDD (power), L11 VSS/ETC (power), L12 VSS/ETC (power), L13 VSS/ETC (power), L14 VSS/ETC (power), L15 VSS/ETC (power), L16 VSS/ETC (power), L23 VDD (power), M11 VSS/ETC (power), M12 VSS/ETC (power), M13 VSS/ETC (power), M14 VSS/ETC (power), M15 VSS/ETC (power), M16 VSS/ETC (power), N4 VSS (power), N11 VSS/ETC (power), N12 VSS/ETC (power), N13 VSS/ETC (power), N14 VSS/ETC (power), N15 VSS/ETC (power), N16 VSS/ETC (power), P11 VSS/ETC (power), P12 VSS/ETC (power), P13 VSS/ETC (power), P14 VSS/ETC (power), P15 VSS/ETC (power), P16 VSS/ETC (power), P23 VSS (power), R11 VSS/ETC (power), R12 VSS/ETC (power), R13 VSS/ETC (power), R14 VSS/ETC (power), R15 VSS/ETC (power), R16 VSS/ETC (power), T4 VDD (power), T11 VSS/ETC (power), T12 VSS/ETC (power), T13 VSS/ETC (power), T14 VSS/ETC (power), T15 VSS/ETC (power), T16 VSS/ETC (power), T23 VDD (power), V4 VSS (power), W23 VSS (power)

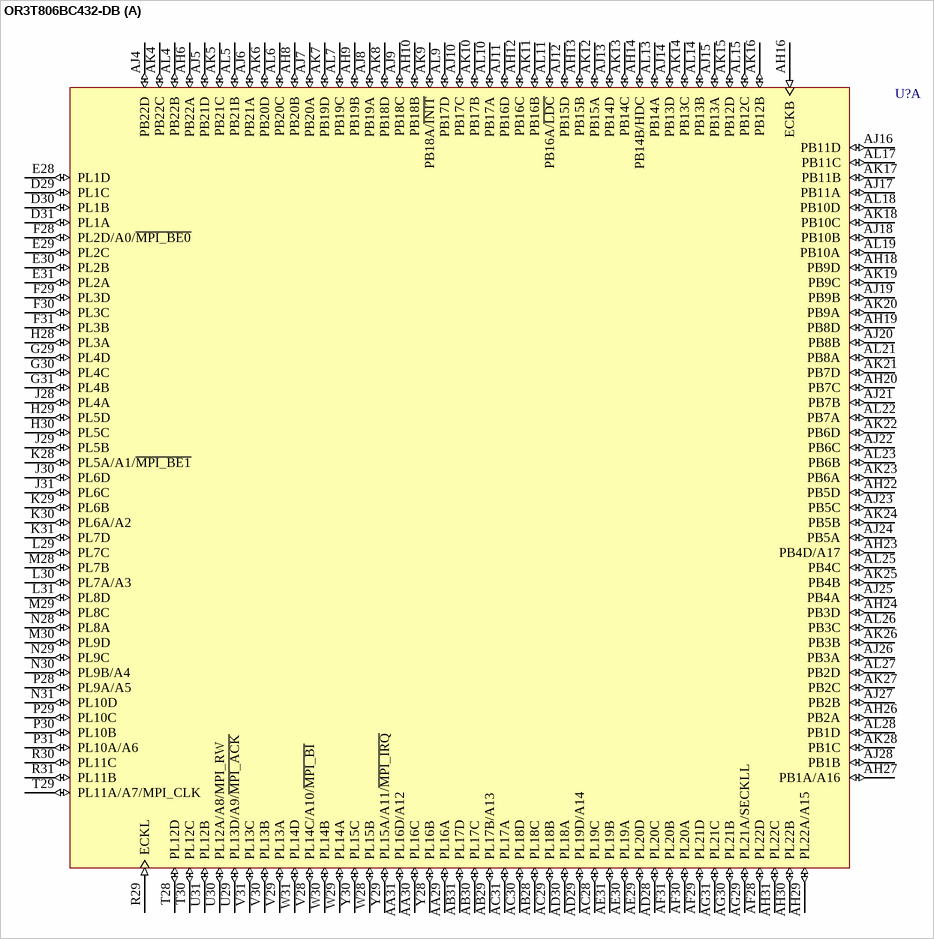
[diagram p100: symbol OR3T806BC432-DB]

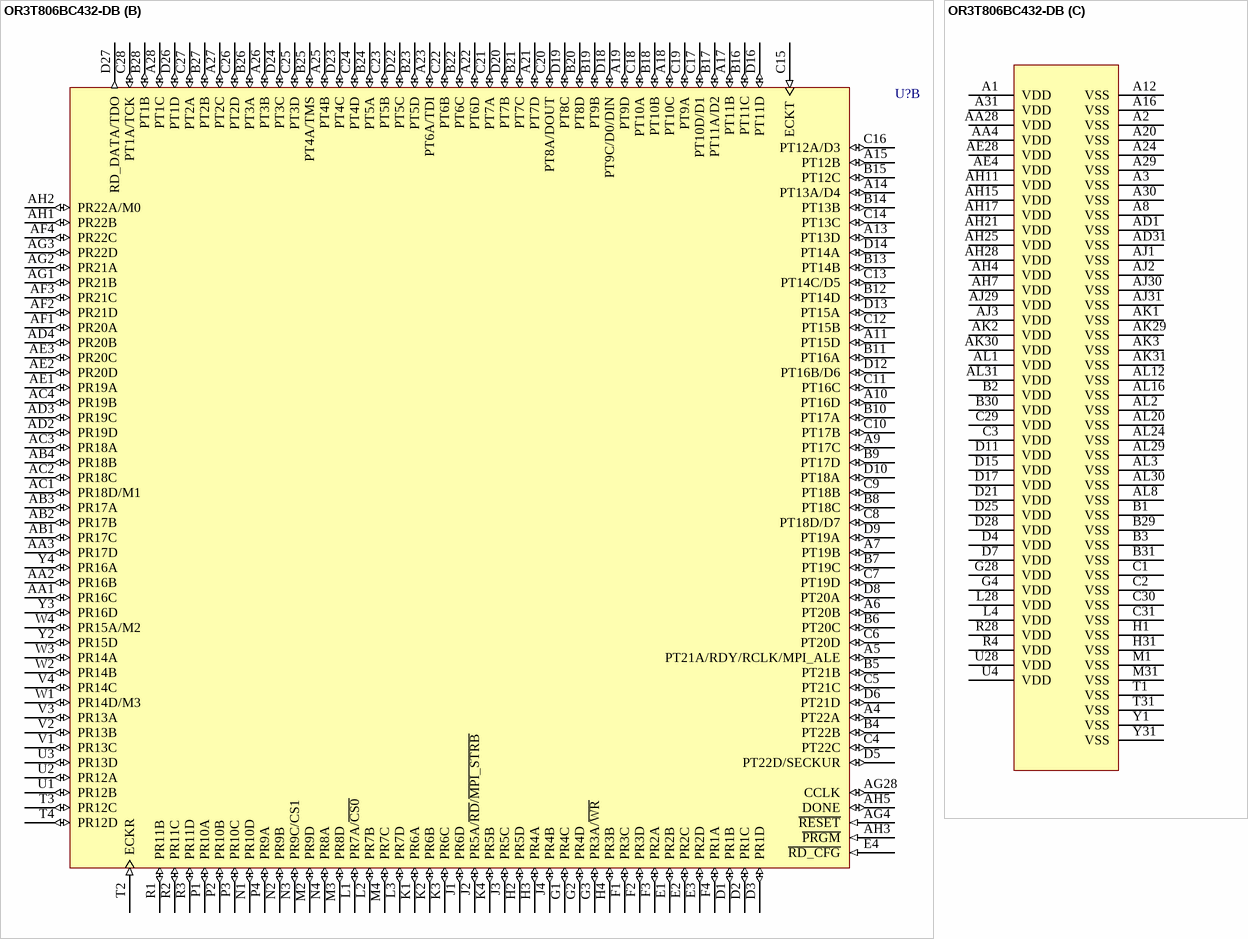
[diagram p101: symbol OR3T806BC432-DB]

## OR3T806BC432-DB
designator U?
ORCA Series 3T FPGA: 3.3 V, Commercial Grade, 356 I/Os.; Published: 21-May-2003; LatestRevisionDate: 13-Apr-2006; LatestRevisionNote: IPC-7351 Footprint Added.; DatasheetVersion: Dec-2002; PackageVersion: pkg_32, Aug-2005; PackageReference: SBGA432; Publisher: Altium Limited; PackageDescription: 432-Ball Super Ball Grid Array (SBGA432); ComponentLink1Description: Manufacturer Link; ComponentLink1URL: http://www.latticesemi.com/products/fpga/orca/orca3/index.cfm; ComponentLink2Description: Datasheet; ComponentLink2URL: http://www.latticesemi.com/account/_download.cfm?AMID=3974; ComponentLink3Description: Lattice Login; ComponentLink3URL: http://www.latticesemi.com/account/login.cfm
footprint SBGA432 (BGA, 432-Leads, Body 40x40mm, Pitch 1.27mm)
3D model OR3T80-SBGA432 (432-Ball Super Ball Grid Array (SBGA432))
part A pins: AA29 PL16A (io), AA30 PL16C (io), AA31 PL16D/A12 (io), AB28 PL18C (io), AB29 PL17B/A13 (io), AB30 PL17C (io), AB31 PL17D (io), AC28 PL19C (io), AC29 PL18B (io), AC30 PL18D (io), AC31 PL17A (io), AD28 PL20C (io), AD29 PL19D/A14 (io), AD30 PL18A (io), AE29 PL20D (io), AE30 PL19A (io), AE31 PL19B (io), AF28 PL22D (io), AF29 PL21D (io), AF30 PL20A (io), AF31 PL20B (io), AG29 PL21A/SECKLL (io), AG30 PL21B (io), AG31 PL21C (io), AH6 PB22A (io), AH8 PB20B (io), AH9 PB19B (io), AH10 PB18B (io), AH12 PB16C (io), AH13 PB15B (io), AH14 PB14B/HDC (io), AH16 ECKB (in), AH18 PB9D (io), AH19 PB8D (io), AH20 PB7C (io), AH22 PB5D (io), AH23 PB4D/A17 (io), AH24 PB3D (io), AH26 PB2A (io), AH27 PB1A/A16 (io), AH29 PL22A/A15 (io), AH30 PL22B (io), AH31 PL22C (io), AJ4 PB22D (io), AJ5 PB21D (io), AJ6 PB21A (io), AJ7 PB20A (io), AJ8 PB19A (io), AJ9 PB18C (io), AJ10 PB17C (io), AJ11 PB16D (io), AJ12 PB15D (io), AJ13 PB14D (io), AJ14 PB13D (io), AJ15 PB13A (io), AJ16 PB11D (io), AJ17 PB11A (io), AJ18 PB10B (io), AJ19 PB9B (io), AJ20 PB8B (io), AJ21 PB7B (io), AJ22 PB6C (io), AJ23 PB5C (io), AJ24 PB5A (io), AJ25 PB4A (io), AJ26 PB3A (io), AJ27 PB2B (io), AJ28 PB1B (io), AK4 PB22C (io), AK5 PB21C (io), AK6 PB20D (io), AK7 PB19D (io), AK8 PB18D (io), AK9 PB18A/~{INIT} (io), AK10 PB17B (io), AK11 PB16B (io), AK12 PB15A (io), AK13 PB14C (io), AK14 PB13C (io), AK15 PB12D (io), AK16 PB12B (io), AK17 PB11B (io), AK18 PB10C (io), AK19 PB9C (io), AK20 PB9A (io), AK21 PB7D (io), AK22 PB6D (io), AK23 PB6A (io), AK24 PB5B (io), AK25 PB4B (io), AK26 PB3B (io), AK27 PB2C (io), AK28 PB1C (io), AL4 PB22B (io), AL5 PB21B (io), AL6 PB20C (io), AL7 PB19C (io), AL9 PB17D (io), AL10 PB17A (io), AL11 PB16A/~{LDC} (io), AL13 PB14A (io), AL14 PB13B (io), AL15 PB12C (io), AL17 PB11C (io), AL18 PB10D (io), AL19 PB10A (io), AL21 PB8A (io), AL22 PB7A (io), AL23 PB6B (io), AL25 PB4C (io), AL26 PB3C (io), AL27 PB2D (io), AL28 PB1D (io), D29 PL1C (io), D30 PL1B (io), D31 PL1A (io), E28 PL1D (io), E29 PL2C (io), E30 PL2B (io), E31 PL2A (io), F28 PL2D/A0/~{MPI_BE0} (io), F29 PL3D (io), F30 PL3C (io), F31 PL3B (io), G29 PL4D (io), G30 PL4C (io), G31 PL4B (io), H28 PL3A (io), H29 PL5D (io), H30 PL5C (io), J28 PL4A (io), J29 PL5B (io), J30 PL6D (io), J31 PL6C (io), K28 PL5A/A1/~{MPI_BE1} (io), K29 PL6B (io), K30 PL6A/A2 (io), K31 PL7D (io), L29 PL7C (io), L30 PL7A/A3 (io), L31 PL8D (io), M28 PL7B (io), M29 PL8C (io), M30 PL9D (io), N28 PL8A (io), N29 PL9C (io), N30 PL9B/A4 (io), N31 PL10D (io), P28 PL9A/A5 (io), P29 PL10C (io), P30 PL10B (io), P31 PL10A/A6 (io), R29 ECKL (in), R30 PL11C (io), R31 PL11B (io), T28 PL12D (io), T29 PL11A/A7/MPI_CLK (io), T30 PL12C (io), U29 PL13D/A9/~{MPI_ACK} (io), U30 PL12A/A8/MPI_RW (io), U31 PL12B (io), V28 PL14C/A10/~{MPI_BI} (io), V29 PL13A (io), V30 PL13B (io), V31 PL13C (io), W28 PL15B (io), W29 PL14A (io), W30 PL14B (io), W31 PL14D (io), Y28 PL16B (io), Y29 PL15A/A11/~{MPI_IRQ} (io), Y30 PL15C (io)
part B pins: A4 PT22A (io), A5 PT21A/RDY/RCLK/MPI_ALE (io), A6 PT20B (io), A7 PT19B (io), A9 PT17C (io), A10 PT16D (io), A11 PT15D (io), A13 PT13D (io), A14 PT13A/D4 (io), A15 PT12B (io), A17 PT11B (io), A18 PT10C (io), A19 PT9D (io), A21 PT7D (io), A22 PT6D (io), A23 PT6A/TDI (io), A25 PT4B (io), A26 PT3B (io), A27 PT2C (io), A28 PT1C (io), AA1 PR16C (io), AA2 PR16B (io), AA3 PR17D (io), AB1 PR17C (io), AB2 PR17B (io), AB3 PR17A (io), AB4 PR18B (io), AC1 PR18D/M1 (io), AC2 PR18C (io), AC3 PR18A (io), AC4 PR19B (io), AD2 PR19D (io), AD3 PR19C (io), AD4 PR20B (io), AE1 PR19A (io), AE2 PR20D (io), AE3 PR20C (io), AF1 PR20A (io), AF2 PR21D (io), AF3 PR21C (io), AF4 PR22C (io), AG1 PR21B (io), AG2 PR21A (io), AG3 PR22D (io), AG4 ~{RESET} (in), AG28 CCLK (io), AH1 PR22B (io), AH2 PR22A/M0 (io), AH3 ~{PRGM} (in), AH5 DONE (io), B4 PT22B (io), B5 PT21B (io), B6 PT20C (io), B7 PT19C (io), B8 PT18C (io), B9 PT17D (io), B10 PT17A (io), B11 PT16A (io), B12 PT14D (io), B13 PT14B (io), B14 PT13B (io), B15 PT12C (io), B16 PT11C (io), B17 PT11A/D2 (io), B18 PT10B (io), B19 PT9B (io), B20 PT8D (io), B21 PT7C (io), B22 PT6C (io), B23 PT5D (io), B24 PT5A (io), B25 PT4A/TMS (io), B26 PT3A (io), B27 PT2B (io), B28 PT1B (io), C4 PT22C (io), C5 PT21C (io), C6 PT20D (io), C7 PT19D (io), C8 PT18D/D7 (io), C9 PT18B (io), C10 PT17B (io), C11 PT16C (io), C12 PT15B (io), C13 PT14C/D5 (io), C14 PT13C (io), C15 ECKT (in), C16 PT12A/D3 (io), C17 PT10D/D1 (io), C18 PT10A (io), C19 PT9A (io), C20 PT8A/DOUT (io), C21 PT7A (io), C22 PT6B (io), C23 PT5B (io), C24 PT4D (io), C25 PT3D (io), C26 PT2D (io), C27 PT2A (io), C28 PT1A/TCK (io), D1 PR1B (io), D2 PR1C (io), D3 PR1D (io), D5 PT22D/SECKUR (io), D6 PT21D (io), D8 PT20A (io), D9 PT19A (io), D10 PT18A (io), D12 PT16B/D6 (io), D13 PT15A (io), D14 PT14A (io), D16 PT11D (io), D18 PT9C/D0/DIN (io), D19 PT8C (io), D20 PT7B (io), D22 PT5C (io), D23 PT4C (io), D24 PT3C (io), D26 PT1D (io), D27 RD_DATA/TDO (out), E1 PR2B (io), E2 PR2C (io), E3 PR2D (io), E4 ~{RD_CFG} (in), F1 PR3C (io), F2 PR3D (io), F3 PR2A (io), F4 PR1A (io), G1 PR4C (io), G2 PR4D (io), G3 PR3A/~{WR} (io), H2 PR5D (io), H3 PR4A (io), H4 PR3B (io), J1 PR6D (io), J2 PR5A/~{RD}/~{MPI_STRB} (io), J3 PR5C (io), J4 PR4B (io), K1 PR6A (io), K2 PR6B (io), K3 PR6C (io), K4 PR5B (io), L1 PR7A/~{CS0} (io), L2 PR7B (io), L3 PR7D (io), M2 PR9D (io), M3 PR8D (io), M4 PR7C (io), N1 PR10D (io), N2 PR9B (io), N3 PR9C/CS1 (io), N4 PR8A (io), P1 PR10A (io), P2 PR10B (io), P3 PR10C (io), P4 PR9A (io), R1 PR11B (io), R2 PR11C (io), R3 PR11D (io), T2 ECKR (in), T3 PR12C (io), T4 PR12D (io), U1 PR12B (io), U2 PR12A (io), U3 PR13D (io), V1 PR13C (io), V2 PR13B (io), V3 PR13A (io), V4 PR14C (io), W1 PR14D/M3 (io), W2 PR14B (io), W3 PR14A (io), W4 PR15A/M2 (io), Y2 PR15D (io), Y3 PR16D (io), Y4 PR16A (io)
part C pins: A1 VDD (power), A2 VSS (power), A3 VSS (power), A8 VSS (power), A12 VSS (power), A16 VSS (power), A20 VSS (power), A24 VSS (power), A29 VSS (power), A30 VSS (power), A31 VDD (power), AA4 VDD (power), AA28 VDD (power), AD1 VSS (power), AD31 VSS (power), AE4 VDD (power), AE28 VDD (power), AH4 VDD (power), AH7 VDD (power), AH11 VDD (power), AH15 VDD (power), AH17 VDD (power), AH21 VDD (power), AH25 VDD (power), AH28 VDD (power), AJ1 VSS (power), AJ2 VSS (power), AJ3 VDD (power), AJ29 VDD (power), AJ30 VSS (power), AJ31 VSS (power), AK1 VSS (power), AK2 VDD (power), AK3 VSS (power), AK29 VSS (power), AK30 VDD (power), AK31 VSS (power), AL1 VDD (power), AL2 VSS (power), AL3 VSS (power), AL8 VSS (power), AL12 VSS (power), AL16 VSS (power), AL20 VSS (power), AL24 VSS (power), AL29 VSS (power), AL30 VSS (power), AL31 VDD (power), B1 VSS (power), B2 VDD (power), B3 VSS (power), B29 VSS (power), B30 VDD (power), B31 VSS (power), C1 VSS (power), C2 VSS (power), C3 VDD (power), C29 VDD (power), C30 VSS (power), C31 VSS (power), D4 VDD (power), D7 VDD (power), D11 VDD (power), D15 VDD (power), D17 VDD (power), D21 VDD (power), D25 VDD (power), D28 VDD (power), G4 VDD (power), G28 VDD (power), H1 VSS (power), H31 VSS (power), L4 VDD (power), L28 VDD (power), M1 VSS (power), M31 VSS (power), R4 VDD (power), R28 VDD (power), T1 VSS (power), T31 VSS (power), U4 VDD (power), U28 VDD (power), Y1 VSS (power), Y31 VSS (power)

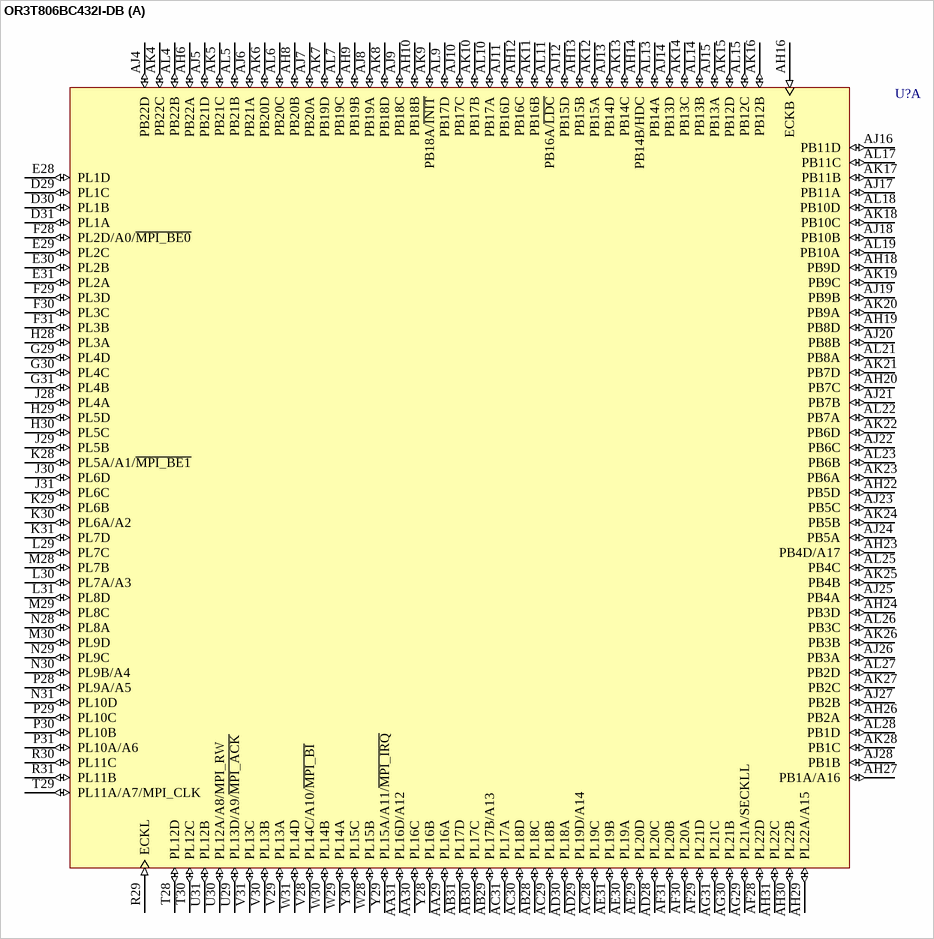
[diagram p102: symbol OR3T806BC432I-DB]

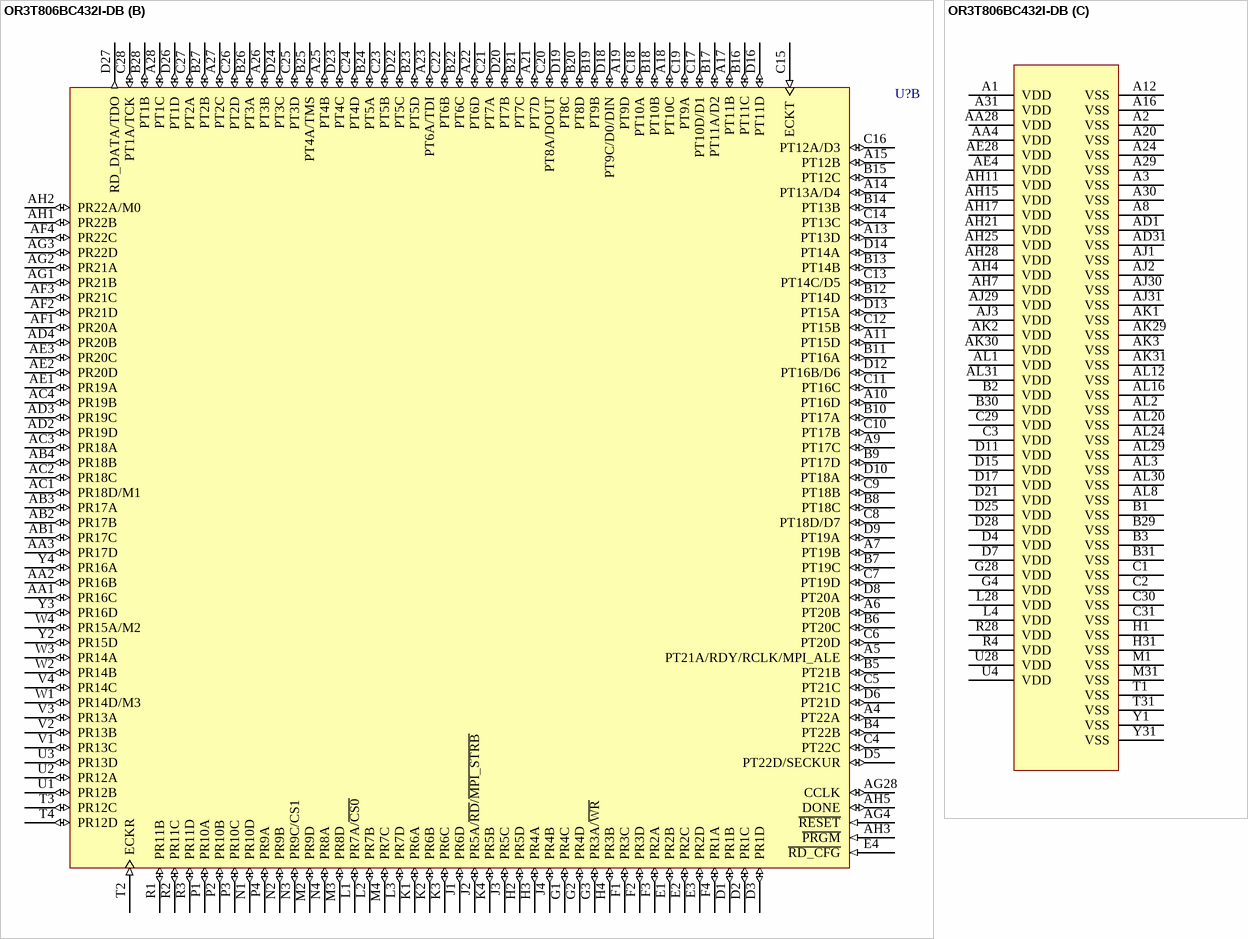
[diagram p103: symbol OR3T806BC432I-DB]

## OR3T806BC432I-DB
designator U?
ORCA Series 3T FPGA: 3.3 V, Industrial Grade, 356 I/Os.; Published: 21-May-2003; LatestRevisionDate: 13-Apr-2006; LatestRevisionNote: IPC-7351 Footprint Added.; DatasheetVersion: Dec-2002; PackageVersion: pkg_32, Aug-2005; PackageReference: SBGA432; Publisher: Altium Limited; PackageDescription: 432-Ball Super Ball Grid Array (SBGA432); ComponentLink1Description: Manufacturer Link; ComponentLink1URL: http://www.latticesemi.com/products/fpga/orca/orca3/index.cfm; ComponentLink2Description: Datasheet; ComponentLink2URL: http://www.latticesemi.com/account/_download.cfm?AMID=3974; ComponentLink3Description: Lattice Login; ComponentLink3URL: http://www.latticesemi.com/account/login.cfm
footprint SBGA432 (BGA, 432-Leads, Body 40x40mm, Pitch 1.27mm)
3D model OR3T80-SBGA432 (432-Ball Super Ball Grid Array (SBGA432))
part A pins: AA29 PL16A (io), AA30 PL16C (io), AA31 PL16D/A12 (io), AB28 PL18C (io), AB29 PL17B/A13 (io), AB30 PL17C (io), AB31 PL17D (io), AC28 PL19C (io), AC29 PL18B (io), AC30 PL18D (io), AC31 PL17A (io), AD28 PL20C (io), AD29 PL19D/A14 (io), AD30 PL18A (io), AE29 PL20D (io), AE30 PL19A (io), AE31 PL19B (io), AF28 PL22D (io), AF29 PL21D (io), AF30 PL20A (io), AF31 PL20B (io), AG29 PL21A/SECKLL (io), AG30 PL21B (io), AG31 PL21C (io), AH6 PB22A (io), AH8 PB20B (io), AH9 PB19B (io), AH10 PB18B (io), AH12 PB16C (io), AH13 PB15B (io), AH14 PB14B/HDC (io), AH16 ECKB (in), AH18 PB9D (io), AH19 PB8D (io), AH20 PB7C (io), AH22 PB5D (io), AH23 PB4D/A17 (io), AH24 PB3D (io), AH26 PB2A (io), AH27 PB1A/A16 (io), AH29 PL22A/A15 (io), AH30 PL22B (io), AH31 PL22C (io), AJ4 PB22D (io), AJ5 PB21D (io), AJ6 PB21A (io), AJ7 PB20A (io), AJ8 PB19A (io), AJ9 PB18C (io), AJ10 PB17C (io), AJ11 PB16D (io), AJ12 PB15D (io), AJ13 PB14D (io), AJ14 PB13D (io), AJ15 PB13A (io), AJ16 PB11D (io), AJ17 PB11A (io), AJ18 PB10B (io), AJ19 PB9B (io), AJ20 PB8B (io), AJ21 PB7B (io), AJ22 PB6C (io), AJ23 PB5C (io), AJ24 PB5A (io), AJ25 PB4A (io), AJ26 PB3A (io), AJ27 PB2B (io), AJ28 PB1B (io), AK4 PB22C (io), AK5 PB21C (io), AK6 PB20D (io), AK7 PB19D (io), AK8 PB18D (io), AK9 PB18A/~{INIT} (io), AK10 PB17B (io), AK11 PB16B (io), AK12 PB15A (io), AK13 PB14C (io), AK14 PB13C (io), AK15 PB12D (io), AK16 PB12B (io), AK17 PB11B (io), AK18 PB10C (io), AK19 PB9C (io), AK20 PB9A (io), AK21 PB7D (io), AK22 PB6D (io), AK23 PB6A (io), AK24 PB5B (io), AK25 PB4B (io), AK26 PB3B (io), AK27 PB2C (io), AK28 PB1C (io), AL4 PB22B (io), AL5 PB21B (io), AL6 PB20C (io), AL7 PB19C (io), AL9 PB17D (io), AL10 PB17A (io), AL11 PB16A/~{LDC} (io), AL13 PB14A (io), AL14 PB13B (io), AL15 PB12C (io), AL17 PB11C (io), AL18 PB10D (io), AL19 PB10A (io), AL21 PB8A (io), AL22 PB7A (io), AL23 PB6B (io), AL25 PB4C (io), AL26 PB3C (io), AL27 PB2D (io), AL28 PB1D (io), D29 PL1C (io), D30 PL1B (io), D31 PL1A (io), E28 PL1D (io), E29 PL2C (io), E30 PL2B (io), E31 PL2A (io), F28 PL2D/A0/~{MPI_BE0} (io), F29 PL3D (io), F30 PL3C (io), F31 PL3B (io), G29 PL4D (io), G30 PL4C (io), G31 PL4B (io), H28 PL3A (io), H29 PL5D (io), H30 PL5C (io), J28 PL4A (io), J29 PL5B (io), J30 PL6D (io), J31 PL6C (io), K28 PL5A/A1/~{MPI_BE1} (io), K29 PL6B (io), K30 PL6A/A2 (io), K31 PL7D (io), L29 PL7C (io), L30 PL7A/A3 (io), L31 PL8D (io), M28 PL7B (io), M29 PL8C (io), M30 PL9D (io), N28 PL8A (io), N29 PL9C (io), N30 PL9B/A4 (io), N31 PL10D (io), P28 PL9A/A5 (io), P29 PL10C (io), P30 PL10B (io), P31 PL10A/A6 (io), R29 ECKL (in), R30 PL11C (io), R31 PL11B (io), T28 PL12D (io), T29 PL11A/A7/MPI_CLK (io), T30 PL12C (io), U29 PL13D/A9/~{MPI_ACK} (io), U30 PL12A/A8/MPI_RW (io), U31 PL12B (io), V28 PL14C/A10/~{MPI_BI} (io), V29 PL13A (io), V30 PL13B (io), V31 PL13C (io), W28 PL15B (io), W29 PL14A (io), W30 PL14B (io), W31 PL14D (io), Y28 PL16B (io), Y29 PL15A/A11/~{MPI_IRQ} (io), Y30 PL15C (io)
part B pins: A4 PT22A (io), A5 PT21A/RDY/RCLK/MPI_ALE (io), A6 PT20B (io), A7 PT19B (io), A9 PT17C (io), A10 PT16D (io), A11 PT15D (io), A13 PT13D (io), A14 PT13A/D4 (io), A15 PT12B (io), A17 PT11B (io), A18 PT10C (io), A19 PT9D (io), A21 PT7D (io), A22 PT6D (io), A23 PT6A/TDI (io), A25 PT4B (io), A26 PT3B (io), A27 PT2C (io), A28 PT1C (io), AA1 PR16C (io), AA2 PR16B (io), AA3 PR17D (io), AB1 PR17C (io), AB2 PR17B (io), AB3 PR17A (io), AB4 PR18B (io), AC1 PR18D/M1 (io), AC2 PR18C (io), AC3 PR18A (io), AC4 PR19B (io), AD2 PR19D (io), AD3 PR19C (io), AD4 PR20B (io), AE1 PR19A (io), AE2 PR20D (io), AE3 PR20C (io), AF1 PR20A (io), AF2 PR21D (io), AF3 PR21C (io), AF4 PR22C (io), AG1 PR21B (io), AG2 PR21A (io), AG3 PR22D (io), AG4 ~{RESET} (in), AG28 CCLK (io), AH1 PR22B (io), AH2 PR22A/M0 (io), AH3 ~{PRGM} (in), AH5 DONE (io), B4 PT22B (io), B5 PT21B (io), B6 PT20C (io), B7 PT19C (io), B8 PT18C (io), B9 PT17D (io), B10 PT17A (io), B11 PT16A (io), B12 PT14D (io), B13 PT14B (io), B14 PT13B (io), B15 PT12C (io), B16 PT11C (io), B17 PT11A/D2 (io), B18 PT10B (io), B19 PT9B (io), B20 PT8D (io), B21 PT7C (io), B22 PT6C (io), B23 PT5D (io), B24 PT5A (io), B25 PT4A/TMS (io), B26 PT3A (io), B27 PT2B (io), B28 PT1B (io), C4 PT22C (io), C5 PT21C (io), C6 PT20D (io), C7 PT19D (io), C8 PT18D/D7 (io), C9 PT18B (io), C10 PT17B (io), C11 PT16C (io), C12 PT15B (io), C13 PT14C/D5 (io), C14 PT13C (io), C15 ECKT (in), C16 PT12A/D3 (io), C17 PT10D/D1 (io), C18 PT10A (io), C19 PT9A (io), C20 PT8A/DOUT (io), C21 PT7A (io), C22 PT6B (io), C23 PT5B (io), C24 PT4D (io), C25 PT3D (io), C26 PT2D (io), C27 PT2A (io), C28 PT1A/TCK (io), D1 PR1B (io), D2 PR1C (io), D3 PR1D (io), D5 PT22D/SECKUR (io), D6 PT21D (io), D8 PT20A (io), D9 PT19A (io), D10 PT18A (io), D12 PT16B/D6 (io), D13 PT15A (io), D14 PT14A (io), D16 PT11D (io), D18 PT9C/D0/DIN (io), D19 PT8C (io), D20 PT7B (io), D22 PT5C (io), D23 PT4C (io), D24 PT3C (io), D26 PT1D (io), D27 RD_DATA/TDO (out), E1 PR2B (io), E2 PR2C (io), E3 PR2D (io), E4 ~{RD_CFG} (in), F1 PR3C (io), F2 PR3D (io), F3 PR2A (io), F4 PR1A (io), G1 PR4C (io), G2 PR4D (io), G3 PR3A/~{WR} (io), H2 PR5D (io), H3 PR4A (io), H4 PR3B (io), J1 PR6D (io), J2 PR5A/~{RD}/~{MPI_STRB} (io), J3 PR5C (io), J4 PR4B (io), K1 PR6A (io), K2 PR6B (io), K3 PR6C (io), K4 PR5B (io), L1 PR7A/~{CS0} (io), L2 PR7B (io), L3 PR7D (io), M2 PR9D (io), M3 PR8D (io), M4 PR7C (io), N1 PR10D (io), N2 PR9B (io), N3 PR9C/CS1 (io), N4 PR8A (io), P1 PR10A (io), P2 PR10B (io), P3 PR10C (io), P4 PR9A (io), R1 PR11B (io), R2 PR11C (io), R3 PR11D (io), T2 ECKR (in), T3 PR12C (io), T4 PR12D (io), U1 PR12B (io), U2 PR12A (io), U3 PR13D (io), V1 PR13C (io), V2 PR13B (io), V3 PR13A (io), V4 PR14C (io), W1 PR14D/M3 (io), W2 PR14B (io), W3 PR14A (io), W4 PR15A/M2 (io), Y2 PR15D (io), Y3 PR16D (io), Y4 PR16A (io)
part C pins: A1 VDD (power), A2 VSS (power), A3 VSS (power), A8 VSS (power), A12 VSS (power), A16 VSS (power), A20 VSS (power), A24 VSS (power), A29 VSS (power), A30 VSS (power), A31 VDD (power), AA4 VDD (power), AA28 VDD (power), AD1 VSS (power), AD31 VSS (power), AE4 VDD (power), AE28 VDD (power), AH4 VDD (power), AH7 VDD (power), AH11 VDD (power), AH15 VDD (power), AH17 VDD (power), AH21 VDD (power), AH25 VDD (power), AH28 VDD (power), AJ1 VSS (power), AJ2 VSS (power), AJ3 VDD (power), AJ29 VDD (power), AJ30 VSS (power), AJ31 VSS (power), AK1 VSS (power), AK2 VDD (power), AK3 VSS (power), AK29 VSS (power), AK30 VDD (power), AK31 VSS (power), AL1 VDD (power), AL2 VSS (power), AL3 VSS (power), AL8 VSS (power), AL12 VSS (power), AL16 VSS (power), AL20 VSS (power), AL24 VSS (power), AL29 VSS (power), AL30 VSS (power), AL31 VDD (power), B1 VSS (power), B2 VDD (power), B3 VSS (power), B29 VSS (power), B30 VDD (power), B31 VSS (power), C1 VSS (power), C2 VSS (power), C3 VDD (power), C29 VDD (power), C30 VSS (power), C31 VSS (power), D4 VDD (power), D7 VDD (power), D11 VDD (power), D15 VDD (power), D17 VDD (power), D21 VDD (power), D25 VDD (power), D28 VDD (power), G4 VDD (power), G28 VDD (power), H1 VSS (power), H31 VSS (power), L4 VDD (power), L28 VDD (power), M1 VSS (power), M31 VSS (power), R4 VDD (power), R28 VDD (power), T1 VSS (power), T31 VSS (power), U4 VDD (power), U28 VDD (power), Y1 VSS (power), Y31 VSS (power)

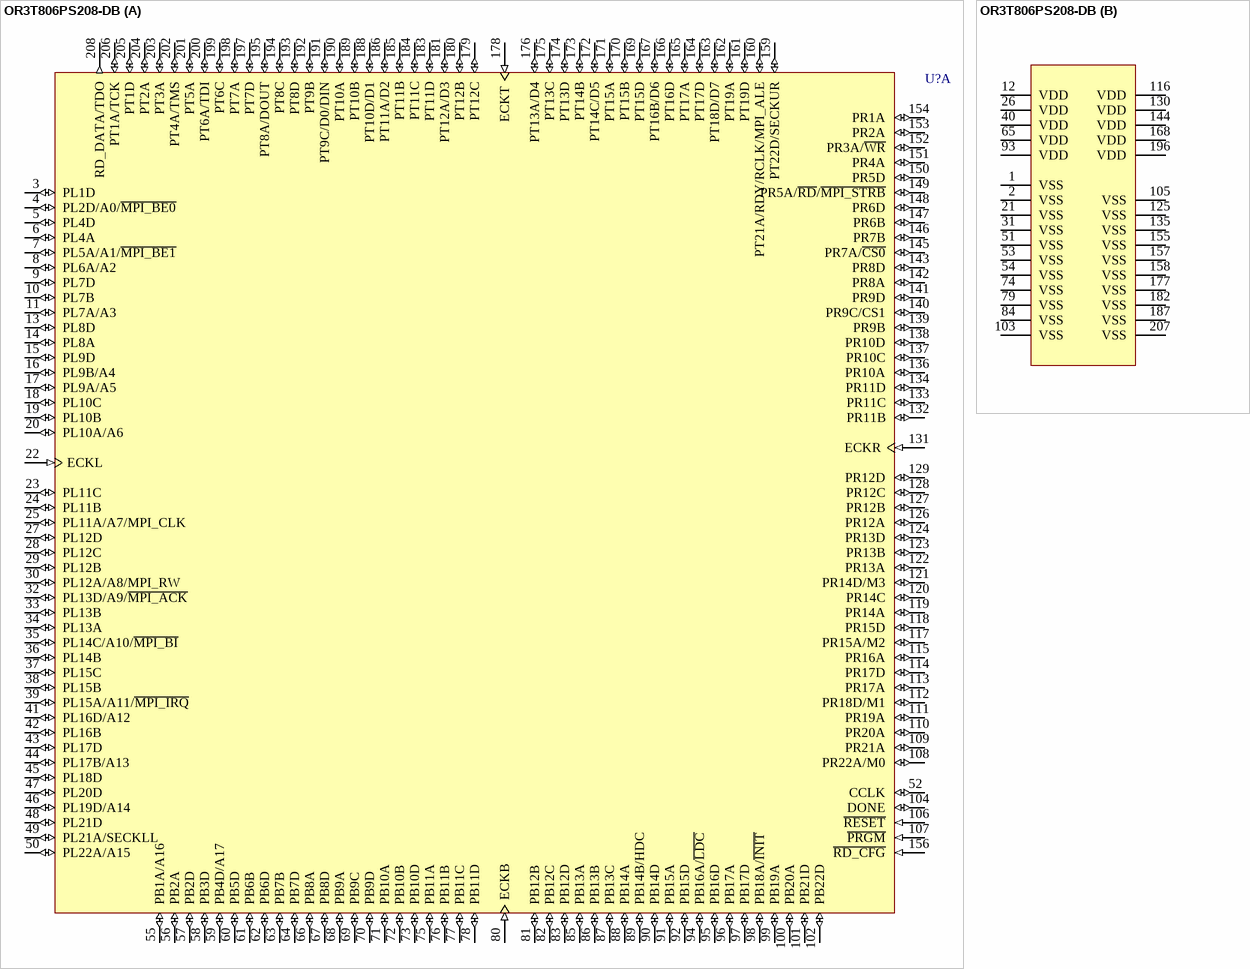
[diagram p104: symbol OR3T806PS208-DB]

## OR3T806PS208-DB
designator U?
ORCA Series 3T FPGA: 3.3 V, Commercial Grade, 356 I/Os.; Published: 21-May-2003; LatestRevisionDate: 13-Apr-2006; LatestRevisionNote: IPC-7351 Footprint Added.; DatasheetVersion: Dec-2002; PackageVersion: pkg_32, Aug-2005; PackageReference: PQFP208; Publisher: Altium Limited; PackageDescription: 208-Pin Plastic Quad Flat Pack (PQFP208); Code_JEDEC: MO-143-FAI; ComponentLink1Description: Manufacturer Link; ComponentLink1URL: http://www.latticesemi.com/products/fpga/orca/orca3/index.cfm; ComponentLink2Description: Datasheet; ComponentLink2URL: http://www.latticesemi.com/account/_download.cfm?AMID=3974; ComponentLink3Description: Lattice Login; ComponentLink3URL: http://www.latticesemi.com/account/login.cfm
footprint PQFP208_N (Shrink QFP, 208-Leads, Body 28x28mm, Pitch 0.5mm, IPC Medium Density)
footprint PQFP208_L (Shrink QFP, 208-Leads, Body 28x28mm, Pitch 0.5mm, IPC High Density)
footprint PQFP208_M (Shrink QFP, 208-Leads, Body 28x28mm, Pitch 0.5mm, IPC Low Density)
3D model OR3T80-PQFP208 (208-Pin Plastic Quad Flat Pack (PQFP208))
part A pins: 3 PL1D (io), 4 PL2D/A0/~{MPI_BE0} (io), 5 PL4D (io), 6 PL4A (io), 7 PL5A/A1/~{MPI_BE1} (io), 8 PL6A/A2 (io), 9 PL7D (io), 10 PL7B (io), 11 PL7A/A3 (io), 13 PL8D (io), 14 PL8A (io), 15 PL9D (io), 16 PL9B/A4 (io), 17 PL9A/A5 (io), 18 PL10C (io), 19 PL10B (io), 20 PL10A/A6 (io), 22 ECKL (in), 23 PL11C (io), 24 PL11B (io), 25 PL11A/A7/MPI_CLK (io), 27 PL12D (io), 28 PL12C (io), 29 PL12B (io), 30 PL12A/A8/MPI_RW (io), 32 PL13D/A9/~{MPI_ACK} (io), 33 PL13B (io), 34 PL13A (io), 35 PL14C/A10/~{MPI_BI} (io), 36 PL14B (io), 37 PL15C (io), 38 PL15B (io), 39 PL15A/A11/~{MPI_IRQ} (io), 41 PL16D/A12 (io), 42 PL16B (io), 43 PL17D (io), 44 PL17B/A13 (io), 45 PL18D (io), 46 PL19D/A14 (io), 47 PL20D (io), 48 PL21D (io), 49 PL21A/SECKLL (io), 50 PL22A/A15 (io), 52 CCLK (io), 55 PB1A/A16 (io), 56 PB2A (io), 57 PB2D (io), 58 PB3D (io), 59 PB4D/A17 (io), 60 PB5D (io), 61 PB6B (io), 62 PB6D (io), 63 PB7B (io), 64 PB7D (io), 66 PB8A (io), 67 PB8D (io), 68 PB9A (io), 69 PB9C (io), 70 PB9D (io), 71 PB10A (io), 72 PB10B (io), 73 PB10D (io), 75 PB11A (io), 76 PB11B (io), 77 PB11C (io), 78 PB11D (io), 80 ECKB (in), 81 PB12B (io), 82 PB12C (io), 83 PB12D (io), 85 PB13A (io), 86 PB13B (io), 87 PB13C (io), 88 PB14A (io), 89 PB14B/HDC (io), 90 PB14D (io), 91 PB15A (io), 92 PB15D (io), 94 PB16A/~{LDC} (io), 95 PB16D (io), 96 PB17A (io), 97 PB17D (io), 98 PB18A/~{INIT} (io), 99 PB19A (io), 100 PB20A (io), 101 PB21D (io), 102 PB22D (io), 104 DONE (io), 106 ~{RESET} (in), 107 ~{PRGM} (in), 108 PR22A/M0 (io), 109 PR21A (io), 110 PR20A (io), 111 PR19A (io), 112 PR18D/M1 (io), 113 PR17A (io), 114 PR17D (io), 115 PR16A (io), 117 PR15A/M2 (io), 118 PR15D (io), 119 PR14A (io), 120 PR14C (io), 121 PR14D/M3 (io), 122 PR13A (io), 123 PR13B (io), 124 PR13D (io), 126 PR12A (io), 127 PR12B (io), 128 PR12C (io), 129 PR12D (io), 131 ECKR (in), 132 PR11B (io), 133 PR11C (io), 134 PR11D (io), 136 PR10A (io), 137 PR10C (io), 138 PR10D (io), 139 PR9B (io), 140 PR9C/CS1 (io), 141 PR9D (io), 142 PR8A (io), 143 PR8D (io), 145 PR7A/~{CS0} (io), 146 PR7B (io), 147 PR6B (io), 148 PR6D (io), 149 PR5A/~{RD}/~{MPI_STRB} (io), 150 PR5D (io), 151 PR4A (io), 152 PR3A/~{WR} (io), 153 PR2A (io), 154 PR1A (io), 156 ~{RD_CFG} (in), 159 PT22D/SECKUR (io), 160 PT21A/RDY/RCLK/MPI_ALE (io), 161 PT19D (io), 162 PT19A (io), 163 PT18D/D7 (io), 164 PT17D (io), 165 PT17A (io), 166 PT16D (io), 167 PT16B/D6 (io), 169 PT15D (io), 170 PT15B (io), 171 PT15A (io), 172 PT14C/D5 (io), 173 PT14B (io), 174 PT13D (io), 175 PT13C (io), 176 PT13A/D4 (io), 178 ECKT (in), 179 PT12C (io), 180 PT12B (io), 181 PT12A/D3 (io), 183 PT11D (io), 184 PT11C (io), 185 PT11B (io), 186 PT11A/D2 (io), 188 PT10D/D1 (io), 189 PT10B (io), 190 PT10A (io), 191 PT9C/D0/DIN (io), 192 PT9B (io), 193 PT8D (io), 194 PT8C (io), 195 PT8A/DOUT (io), 197 PT7D (io), 198 PT7A (io), 199 PT6C (io), 200 PT6A/TDI (io), 201 PT5A (io), 202 PT4A/TMS (io), 203 PT3A (io), 204 PT2A (io), 205 PT1D (io), 206 PT1A/TCK (io), 208 RD_DATA/TDO (out)
part B pins: 1 VSS (power), 2 VSS (power), 12 VDD (power), 21 VSS (power), 26 VDD (power), 31 VSS (power), 40 VDD (power), 51 VSS (power), 53 VSS (power), 54 VSS (power), 65 VDD (power), 74 VSS (power), 79 VSS (power), 84 VSS (power), 93 VDD (power), 103 VSS (power), 105 VSS (power), 116 VDD (power), 125 VSS (power), 130 VDD (power), 135 VSS (power), 144 VDD (power), 155 VSS (power), 157 VSS (power), 158 VSS (power), 168 VDD (power), 177 VSS (power), 182 VSS (power), 187 VSS (power), 196 VDD (power), 207 VSS (power)

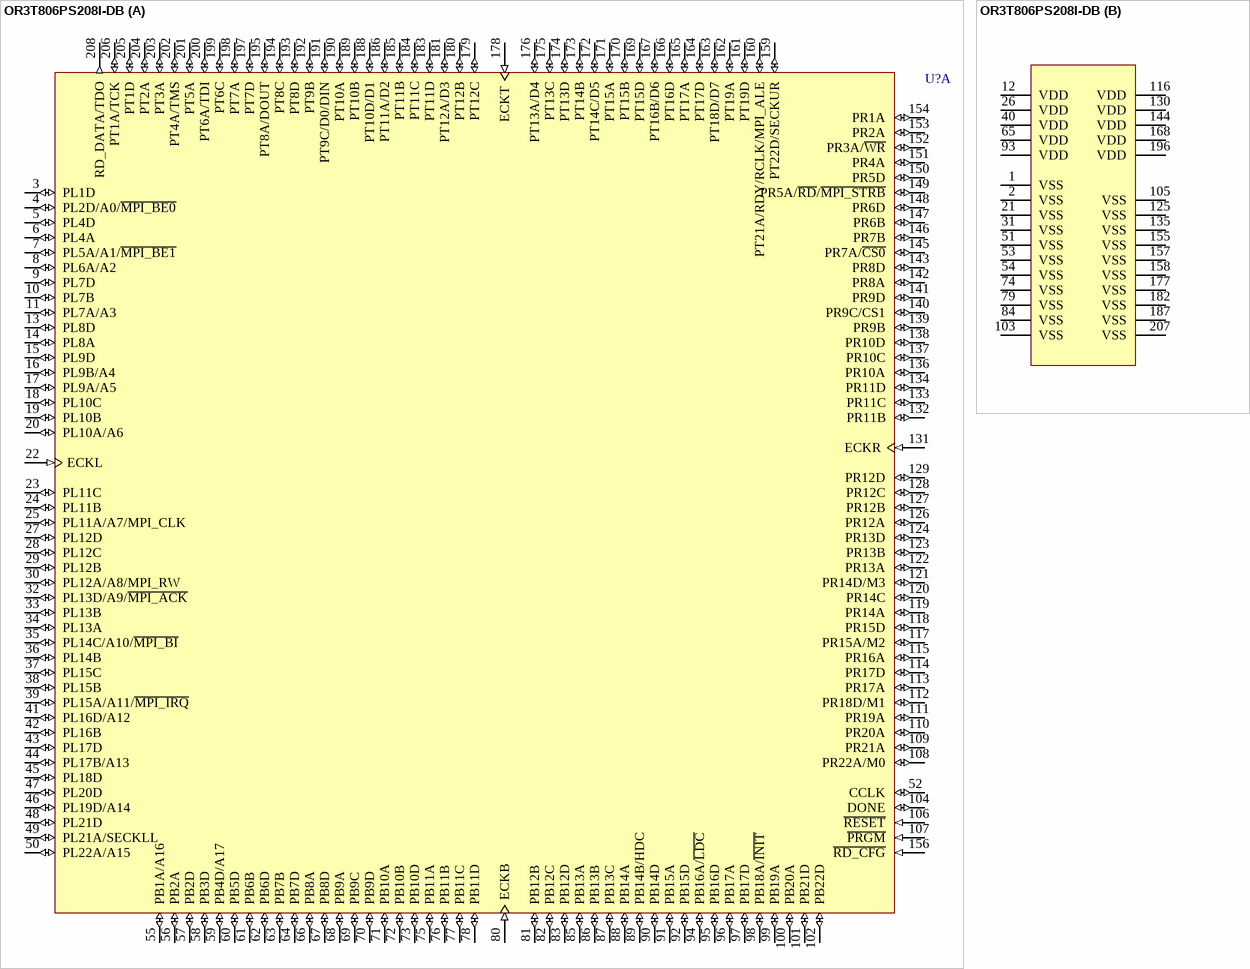
[diagram p105: symbol OR3T806PS208I-DB]